# Altium schematic symbol library TarabusLib_KOR.SchLib: 323 symbols (part 1 of 4)
Pins are listed as number, name and electrical type; pins without a type are passive.

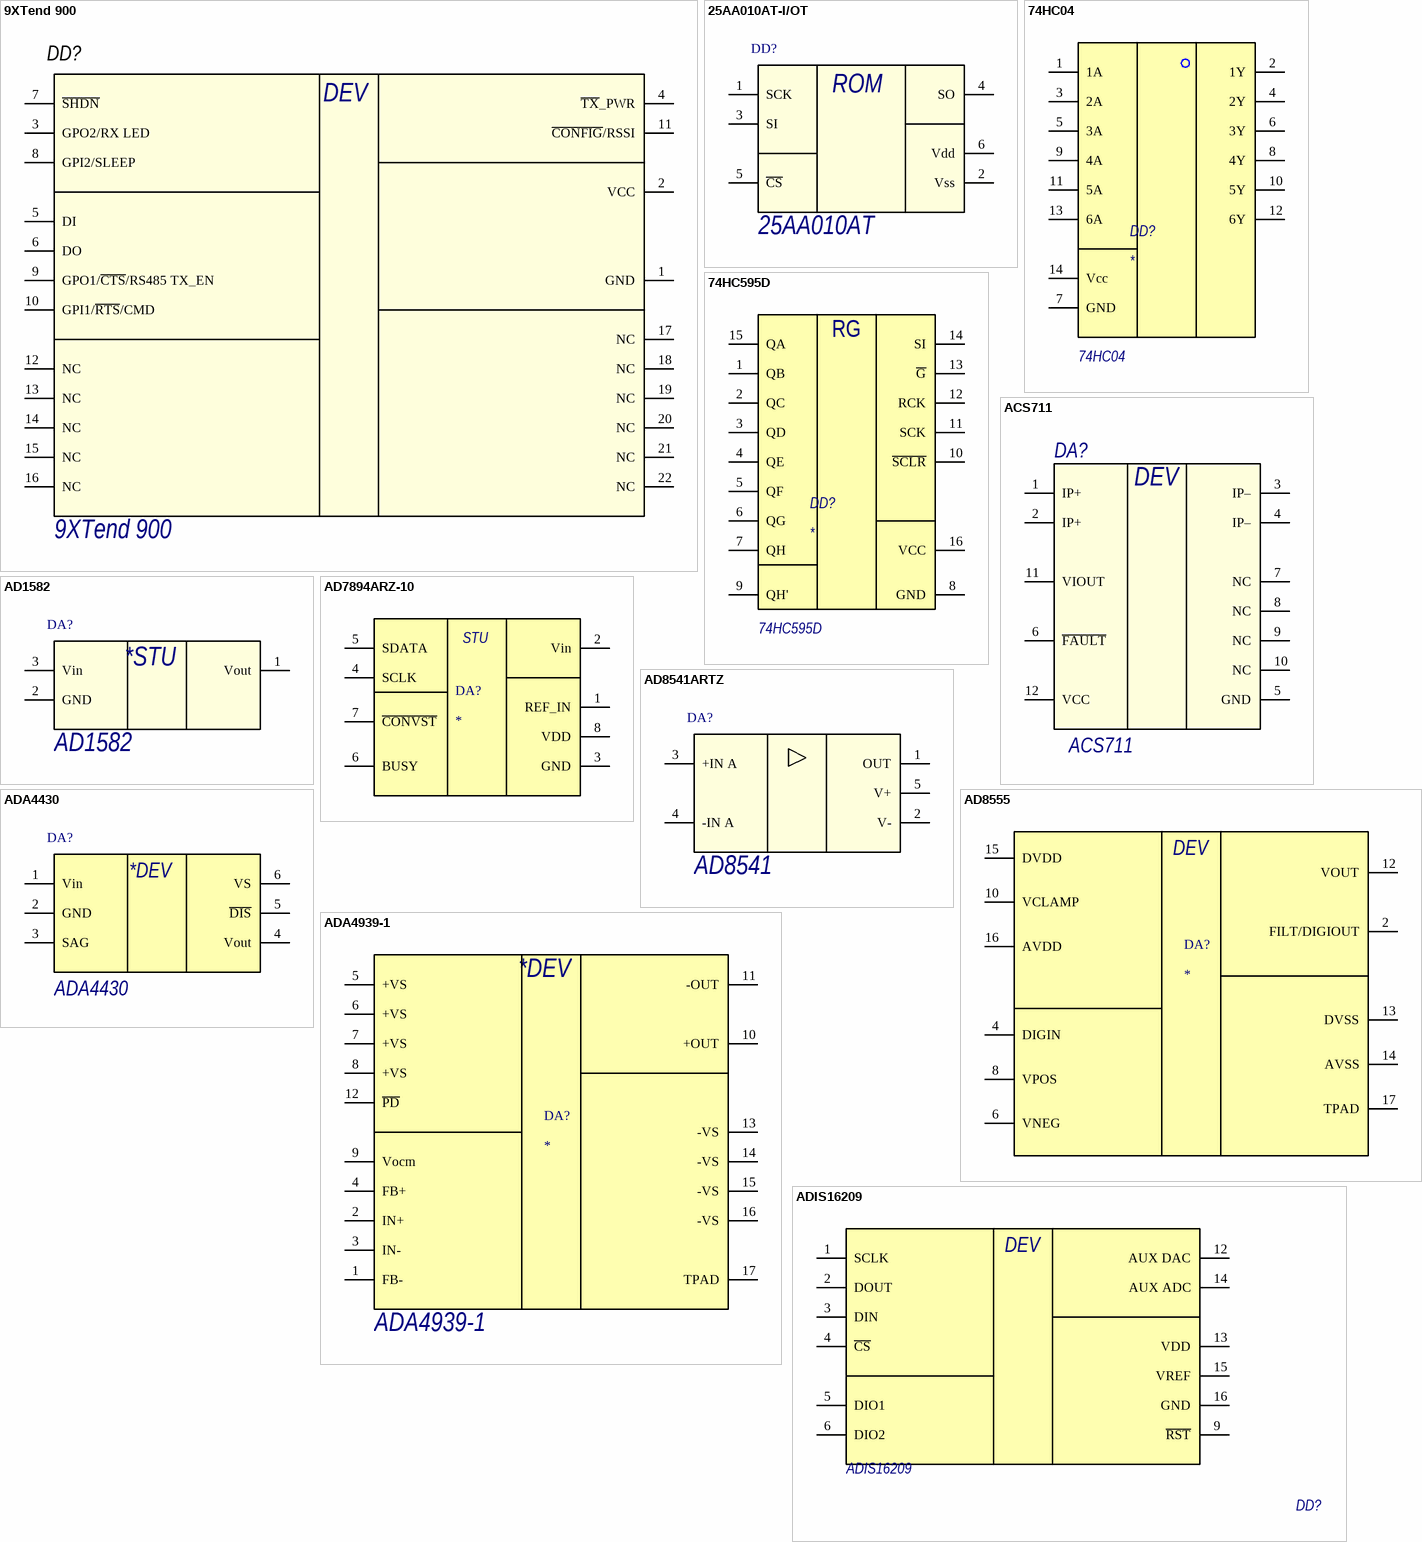
[diagram p0: symbols 9XTend 900 to ADIS16209]

## 9XTend 900
designator DD?
Радиомодуль; Manufacturer: Digi International; Manufacturer Part Number: XBP09-DMUIT-156; Voltage - Supply: 3 V ~ 3.6 V; Frequency: 900MHz; Modulation or Protocol: FHSS; Sensitivity: -100dBm; Data Rate (Max): 156kbps; Current - Receiving: 80mA; Current - Transmitting: 210mA; Data Interface: PCB, Through Hole; Antenna Connector: U.FL; Power - Output: 17dBm (50mW); Output Power: 1 W; Frequency Band: 900 MHz; Interface Type: Serial; Antenna Connector Type: RPSMA; Operating Supply Voltage: 2.8 V to 5.5 V; Supply Current Receiving: 80 mA; Supply Current Transmitting: 950 mA; Supplier: Digi-Key; RoHS: RoHS Compliant; Applications: Wireless Mesh Networks; Memory Size: -; Operating Temperature: -40°C ~ 85°C; Package / Case: Module; Category: RF/IF and RFID; Packaging: Bulk; Supplier Part Number: 602-1131-ND; Supplier 1: Mouser; Stock 1: 309; Pricing 1: 1=265.82 (AUD); Dimensions: 60.5 mm x 36.5 mm x 5.1 mm; Product: Transceiver Modules; Brand: Digi International; Maximum Operating Temperature: + 85 C; Minimum Operating Temperature: - 40 C; Product Category: Wireless Modules 900MHz; Tradename: XTend; RoHS - Mouser: Y; Minimum Order Quantity: 1; Reeling: False; ComponentLink1URL: http://www.mouser.com/ds/2/111/ds_xtendmodule-3221.pdf; ComponentLink1Description: http://www.mouser.com/ds/2/111/ds_xtendmodule-3221.pdf; Supplier Part Number 1: 888-XT09-SI; Name: 9XTend 900
footprint 9XTend 900
pins: 1 GND, 2 VCC, 3 GPO2/RX LED, 4 ~{TX}_PWR, 5 DI, 6 DO, 7 ~{SHDN}, 8 GPI2/SLEEP, 9 GPO1/~{CTS}/RS485 TX_EN, 10 GPI1/~{RTS}/CMD, 11 ~{CONFIG}/RSSI, 12 NC, 13 NC, 14 NC, 15 NC, 16 NC, 17 NC, 18 NC, 19 NC, 20 NC, 21 NC, 22 NC
text: DEV

## 25AA010AT-I/OT
designator DD?, comment 25AA010AT
ПЗУ 1K SPI; Name: 25AA010AT
footprint SOT23-6_A
footprint SOT23-6_H
pins: 1 SCK, 2 Vss, 3 SI, 4 SO, 5 ~{CS}, 6 Vdd
1 alternate drawing of the same symbol
text: ROM

## 74HC04
designator DD?  Name: 74HC04
6-ть инверторов
footprint TSSOP14_A
footprint TSSOP14_H
footprint SO-14
pins: 1 1A, 2 1Y, 3 2A, 4 2Y, 5 3A, 6 3Y, 7 GND, 8 4Y, 9 4A, 10 5Y, 11 5A, 12 6Y, 13 6A, 14 Vcc

## 74HC595D
designator DD?  Name: 74HC595D
8-и битный сдвиговый регистр
footprint SO-16_M (16-Pin Small Outline Integrated Circuit 1.27 mm Pitch, IPC Low Density)
pins: 1 QB, 2 QC, 3 QD, 4 QE, 5 QF, 6 QG, 7 QH, 8 GND, 9 QH', 10 ~{SCLR}, 11 SCK, 12 RCK, 13 ~{G}, 14 SI, 15 QA, 16 VCC
text: RG

## ACS711
designator DA?
Value: Value; Name: ACS711
footprint QFN_EX12 (QFN, 12-Leads, Body 3x3mm, Pitch 0.5mm)
pins: 1 IP+, 2 IP+, 3 IP–, 4 IP–, 5 GND, 6 ~{FAULT}, 7 NC, 8 NC, 9 NC, 10 NC, 11 VIOUT, 12 VCC
text: DEV

## AD1582
designator DA?
ИОН 2.5В; Name: AD1582
footprint SOT23-3_A
footprint SOT23-3_H
pins: 1 Vout, 2 GND, 3 Vin
text: *STU

## AD7894ARZ-10
designator DA?
footprint SO8_A
pins: 1 REF_IN, 2 Vin, 3 GND, 4 SCLK, 5 SDATA, 6 BUSY, 7 ~{CONVST}, 8 VDD
text: STU

## AD8541ARTZ
designator DA?, comment AD8541
ОУ; Name: AD8541
footprint SOT23-5_A
footprint SOT23-5_H
pins: 1 OUT, 2 V-, 3 +IN A, 4 -IN A, 5 V+

## AD8555
designator DA?
footprint VQFN16 - LFCSP
pins: 2 FILT/DIGIOUT, 4 DIGIN, 6 VNEG, 8 VPOS, 10 VCLAMP, 12 VOUT, 13 DVSS, 14 AVSS, 15 DVDD, 16 AVDD, 17 TPAD
text: DEV

## ADA4430
designator DA?
FILT; Name: ADA4430
footprint SOT23-6_A
footprint SOT23-6_H
pins: 1 Vin, 2 GND, 3 SAG, 4 Vout, 5 ~{DIS}, 6 VS
text: *DEV

## ADA4939-1
designator DA?  Name: ADA4939-1
Differential ADC Driver
footprint VQFN16 - LFCSP
pins: 1 FB-, 2 IN+, 3 IN-, 4 FB+, 5 +VS, 6 +VS, 7 +VS, 8 +VS, 9 Vocm, 10 +OUT, 11 -OUT, 12 ~{PD}, 13 -VS, 14 -VS, 15 -VS, 16 -VS, 17 TPAD
text: *DEV

## ADIS16209
designator DD?  (value not drawn)
ADIS16209: ADIS16209
footprint 9.2 X 9.2 LGA
pins: 1 SCLK, 2 DOUT, 3 DIN, 4 ~{CS}, 5 DIO1, 6 DIO2, 9 ~{RST}, 12 AUX DAC, 13 VDD, 14 AUX ADC, 15 VREF, 16 GND
text: DEV

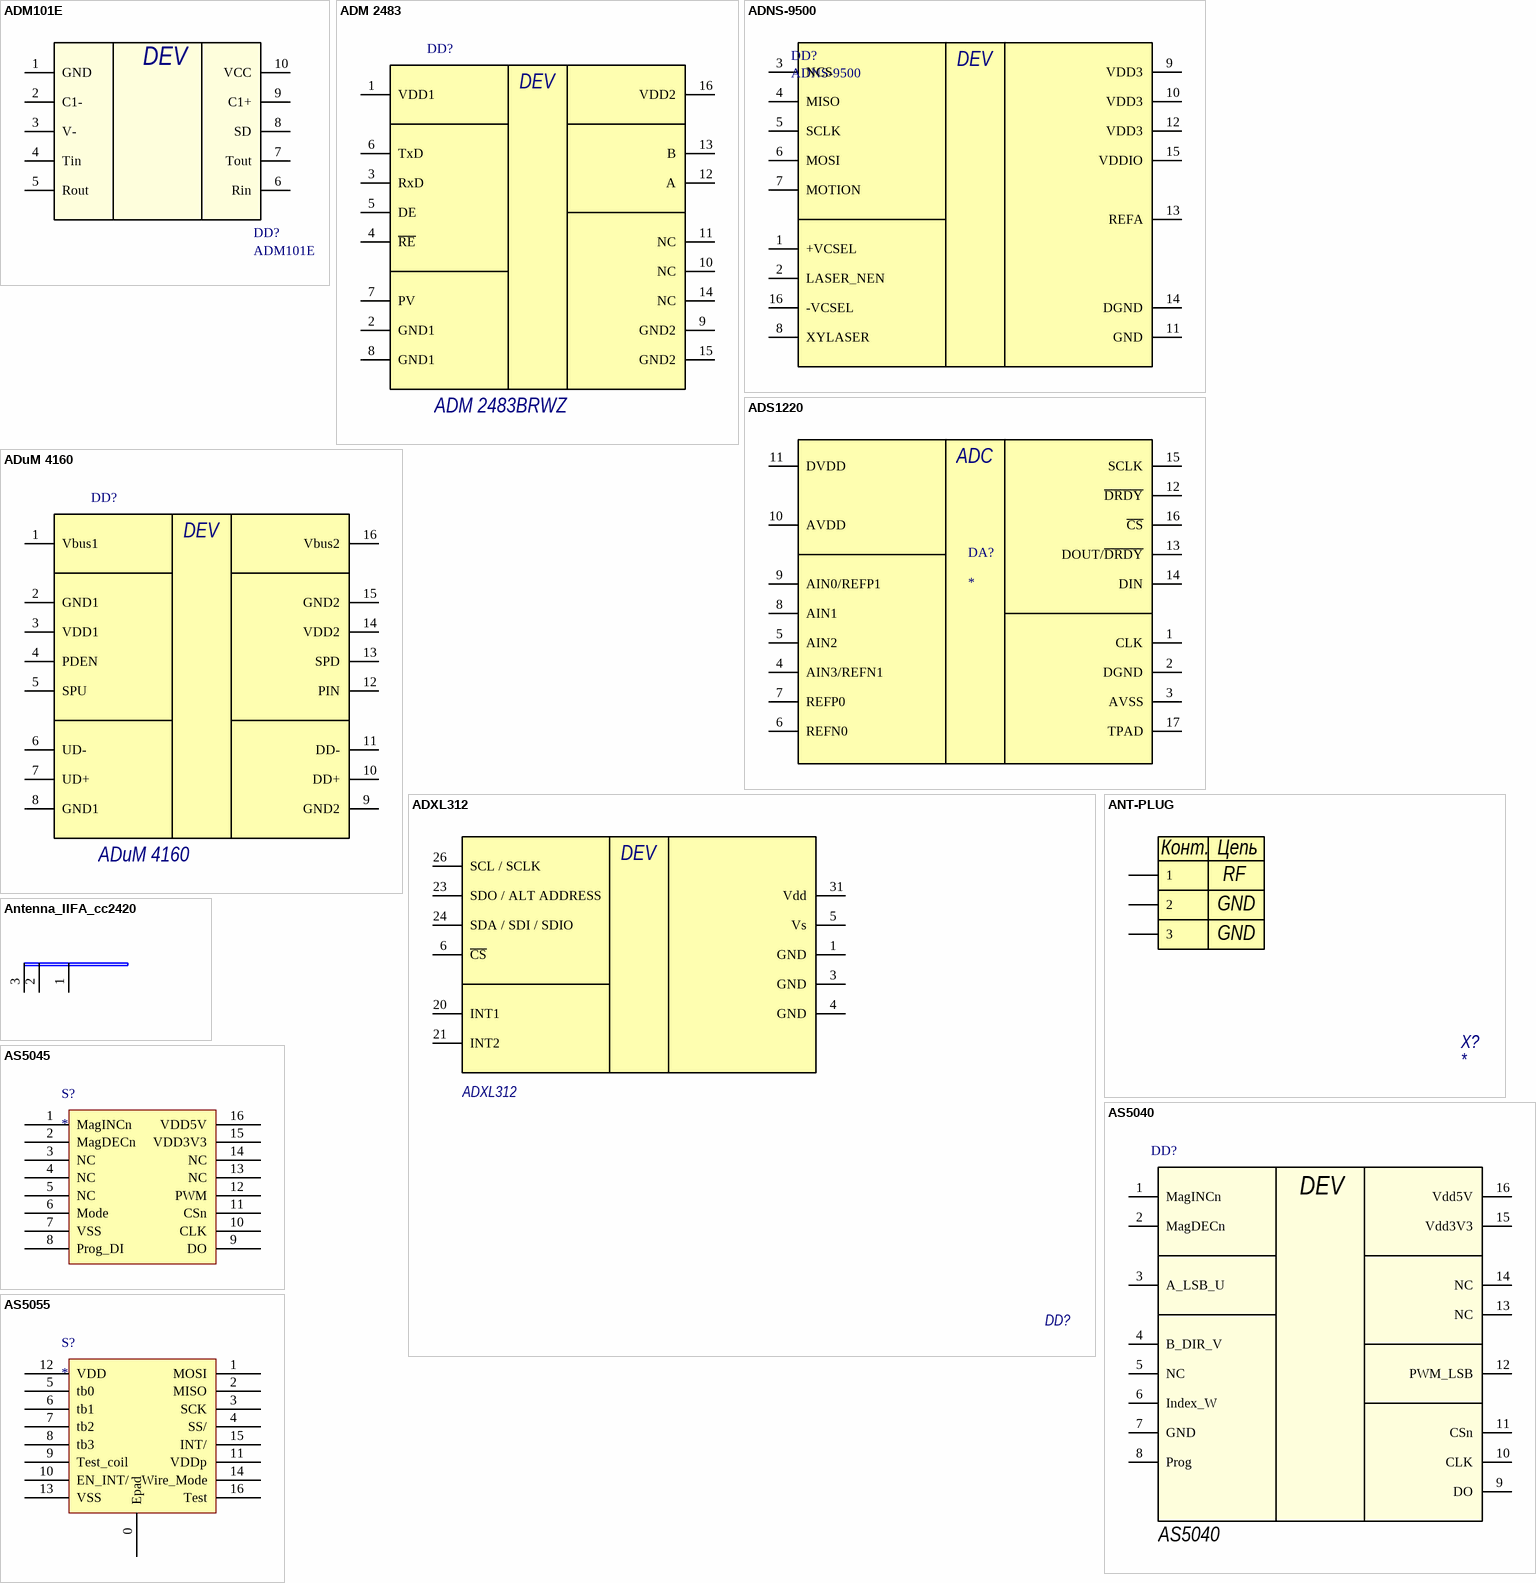
[diagram p1: symbols ADM101E to AS5055]

## ADM101E
designator DD?
RS-232 Transceiver for  Portable Applications
footprint uSOP-10_H
pins: 1 GND, 2 C1-, 3 V-, 4 Tin, 5 Rout, 6 Rin, 7 Tout, 8 SD, 9 C1+, 10 VCC
text: DEV

## ADM 2483
designator DD?, comment ADM 2483BRWZ
Цифровой изолятор; Name: ADM 2483BRWZ
pins: 1 VDD1, 2 GND1, 3 RxD, 4 ~{RE}, 5 DE, 6 TxD, 7 PV, 8 GND1, 9 GND2, 10 NC, 11 NC, 12 A, 13 B, 14 NC, 15 GND2, 16 VDD2
text: DEV

## ADNS-9500
designator DD?
оптический сенсор; Name: ADNS-9500
footprint ADNS-9500 (Оптический датчик)
pins: 1 +VCSEL, 2 LASER_NEN, 3 NCS, 4 MISO, 5 SCLK, 6 MOSI, 7 MOTION, 8 XYLASER, 9 VDD3, 10 VDD3, 11 GND, 12 VDD3, 13 REFA, 14 DGND, 15 VDDIO, 16 -VCSEL
text: DEV

## ADS1220
designator DA?
footprint VQFN16 - LFCSP
footprint VQFN16
pins: 1 CLK, 2 DGND, 3 AVSS, 4 AIN3/REFN1, 5 AIN2, 6 REFN0, 7 REFP0, 8 AIN1, 9 AIN0/REFP1, 10 AVDD, 11 DVDD, 12 ~{DRDY}, 13 DOUT/~{DRDY}, 14 DIN, 15 SCLK, 16 ~{CS}, 17 TPAD
text: ADC

## ADuM 4160
designator DD?
Цифровой изолятор; Name: ADuM 4160
pins: 1 Vbus1, 2 GND1, 3 VDD1, 4 PDEN, 5 SPU, 6 UD-, 7 UD+, 8 GND1, 9 GND2, 10 DD+, 11 DD-, 12 PIN, 13 SPD, 14 VDD2, 15 GND2, 16 Vbus2
text: DEV

## ADXL312
designator DD?  (value not drawn)
ADXL312; ADXL312: ADXL312
footprint ADXL312 (QFN, 32-Leads, Body 5,3x5,3mm (max), Pitch 0,50mm, IPC Medium Density)
pins: 1 GND, 3 GND, 4 GND, 5 Vs, 6 ~{CS}, 20 INT1, 21 INT2, 23 SDO / ALT ADDRESS, 24 SDA / SDI / SDIO, 26 SCL / SCLK, 31 Vdd
text: DEV

## ANT-PLUG
designator X?
footprint CL331-0471-0-01
pins: 1, 2, 3
text: Конт.; Цепь; RF; GND

## Antenna_IIFA_cc2420
designator A?, comment Antenna_IIFA  (value not drawn)
Antenna single ended IIFA; PortComponent: True; Published: 22-Jan-2007; Publisher: Altium Limited; HelpURL: https://wiki.altium.com/display/ADOH/NanoBoard+3000+-+Audio+CODEC
footprint antenna_IIFA_cc2420
pins: 1, 2, 3

## AS5040
designator DD?
Энкодер магнитный; Supplier 1: Digi-Key; Supplier Part Number 1: AS5040-ASSTCT-ND; Name: AS5040
footprint SSOP16_A
footprint SSOP16_H
pins: 1 MagINCn, 2 MagDECn (power), 3 A_LSB_U (power), 4 B_DIR_V, 5 NC, 6 Index_W, 7 GND, 8 Prog, 9 DO, 10 CLK, 11 CSn, 12 PWM_LSB, 13 NC, 14 NC, 15 Vdd3V3, 16 Vdd5V
text: DEV

## AS5045
designator S?
AMS - AS5045-ASSU - ENCODER, MAGNETIC, ROTARY, 12BIT, 16SSOP; No. of Pins: 16; Brief Features: 360; IC Function: 12; Encoder Resolution: 4096; Digital IC Case Style: SSOP; Supply Voltage Max: 3.6; Supply Voltage Min: 3; Rotational Speed: 30000; SVHC: No SVHC (16-Dec-2013); Supply Voltage Range: 3V to 3.6V, 4.5V to 5.5; Supplier 1: Farnell; Operating Temperature Min: -40; Operating Temperature Max: 125; Manufacturer: AMS; RoHS: YES; Supplier: Farnell; Packaging: Each; Manufacturer Part Number: AS5045-ASSU; No. of Bits: 12; MSL: MSL 3 - 168 hours; Operating Temperature Range: -40°C to +125; Termination Type: SMD; Type: Magnetic<!--FANDB--><div class="features-and-benefits-container"></div>; Supplier Part Number 1: 1630801; Supplier Part Number: 1630801
footprint SSOP16_H
pins: 1 MagINCn, 2 MagDECn, 3 NC, 4 NC, 5 NC, 6 Mode, 7 VSS, 8 Prog_DI, 9 DO, 10 CLK, 11 CSn, 12 PWM, 13 NC, 14 NC, 15 VDD3V3, 16 VDD5V

## AS5055
designator S?
IC ENCODER ROTARY 16-QFN; Manufacturer Part Number: AS5055-EQFT; Manufacturer: ams; Voltage - Supply: 3 V ~ 3.6 V; Current - Supply: 8.5mA; Output Type: Digital; Sensing Range: 30mT ~ 80mT; Supplier 1: Digi-Key; RoHS: RoHS Compliant; Packaging: Tape & Reel (TR); Category: Sensors, Transducers; Current - Output (Max): -; Type: Linear, Rotary Encoder - Programmable; Features: -; Package / Case: 16-VQFN Exposed Pad; Operating Temperature: -20°C ~ 85°C; Supplier Device Package: 16-QFN (4x4); Supplier Part Number 1: AS5055-EQFTTR-ND
footprint QFN16_B (QFN, 16-Leads, Body 4,05x4,05mm, Pitch 0,65mm, Thermal Pad 2,60x2,60mm, IPC Medium Density)
pins: 0 Epad, 1 MOSI, 2 MISO, 3 SCK, 4 SS/, 5 tb0, 6 tb1, 7 tb2, 8 tb3, 9 Test_coil, 10 EN_INT/, 11 VDDp, 12 VDD, 13 VSS, 14 Wire_Mode, 15 INT/, 16 Test

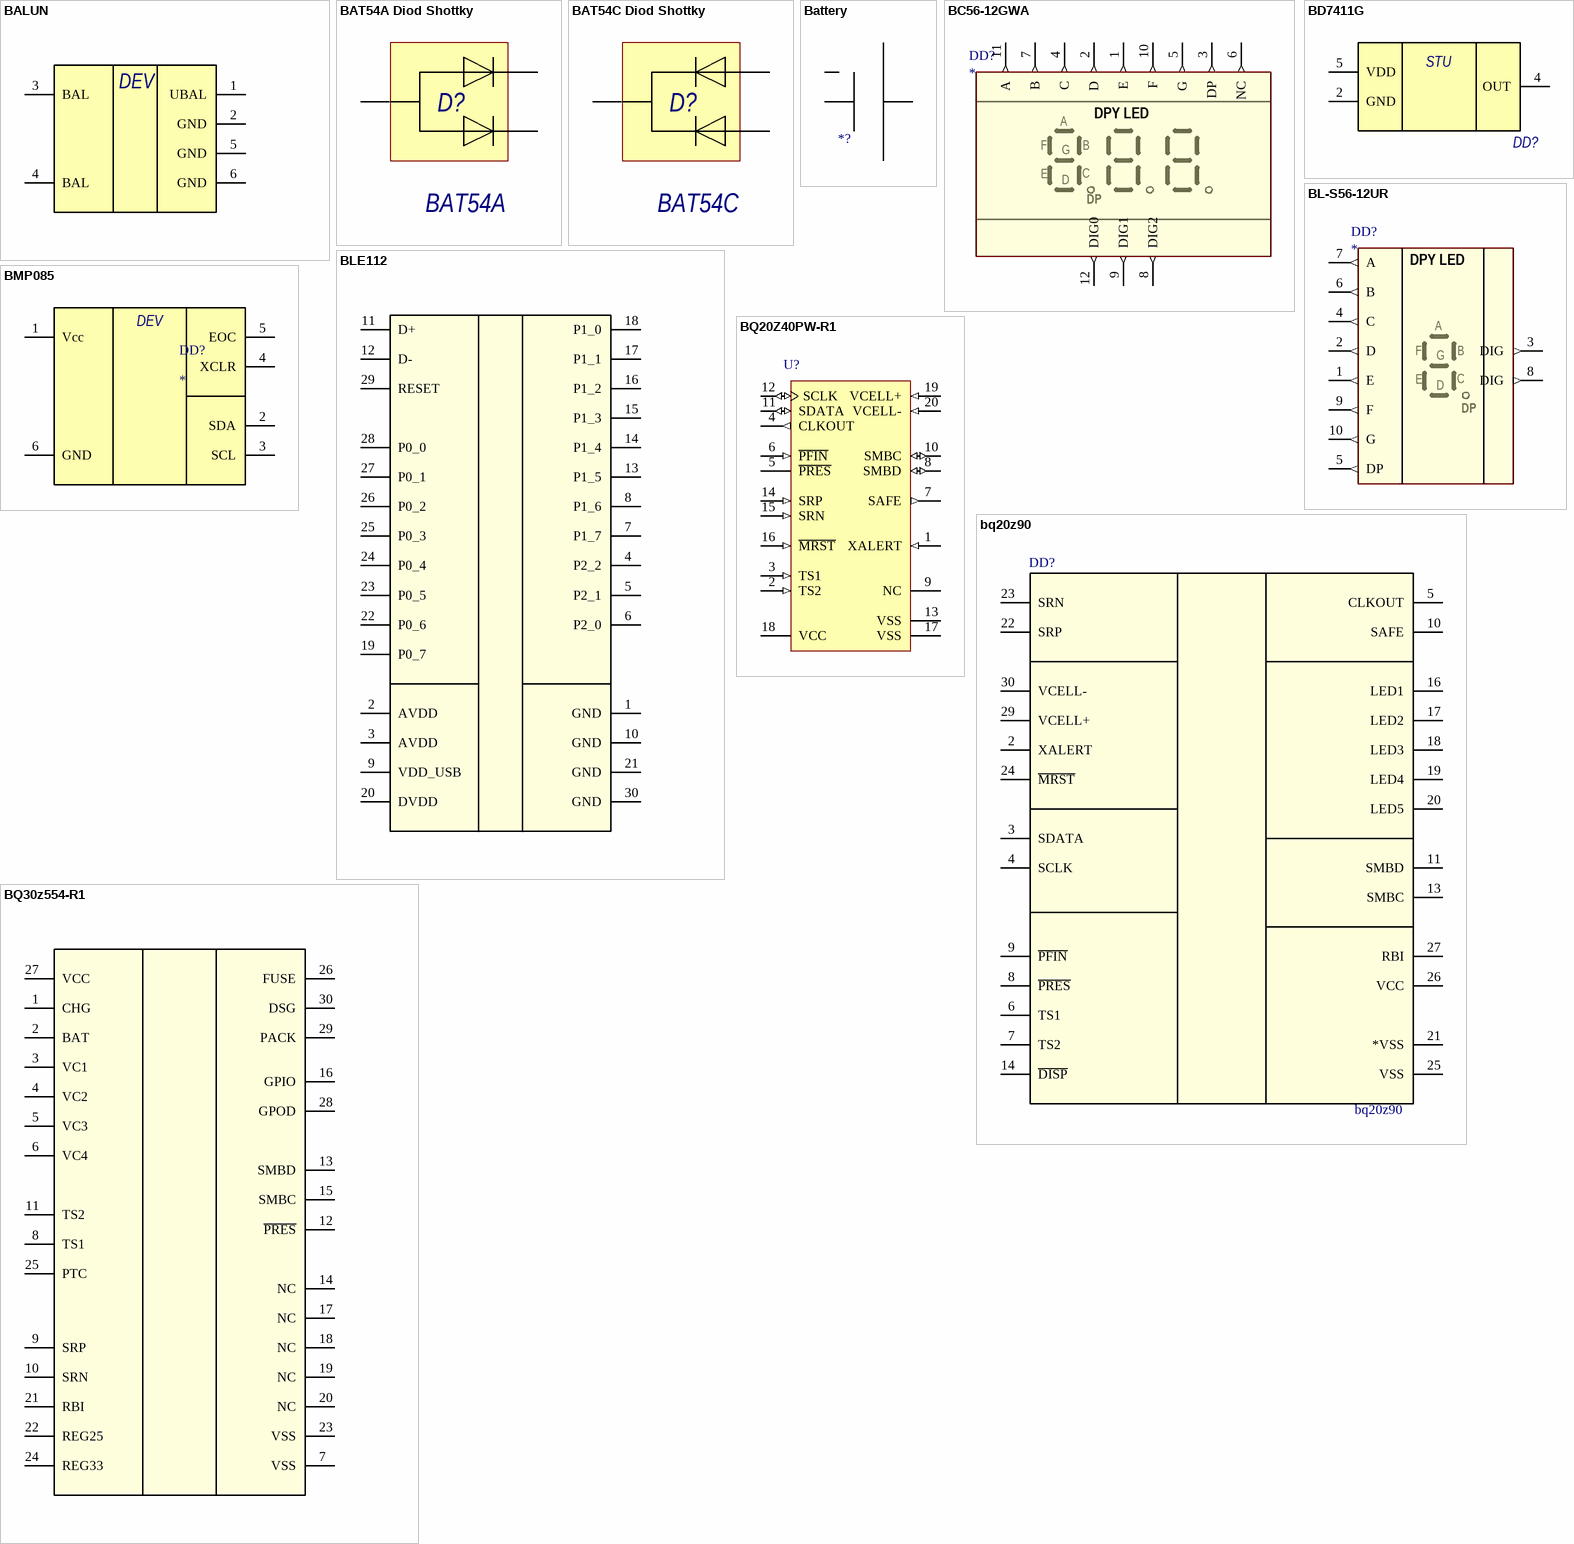
[diagram p2: symbols BALUN to BQ30z554-R1]

## BALUN
designator DD?, comment CC430F5137IRGZT
20 MHz MSP430 SoC with RF Core with 32 KB Flash, 4096 B SRAM and 30 GPIOs, -40 to 85 degC, 48-pin QFN (RGZ), Green (RoHS & no Sb/Br); Manufacturer: Texas Instruments; ADC: Yes; ADC Channels: 6; DMA: 3; Flash(KB): 32; Frequency(MHz): 20; GPIO: 30; Multiplier: 32x32; SRAM(B): 4096; SubFamily: RF SoC Series; Timers - 16-bit: 2; USCI_A (UART/LIN/IrDA/SPI): 1; DatasheetVersion: SLAS554F; PackageVersion: 4204101/F; PackageReference: RGZ48-4100X4100TP; PackageDescription: 48-Pin Plastic Flat Pack, Body 7 x 7 mm, Pitch 0.5 mm; Brown Out Reset: Yes; Comparators: Yes; Eco-Plan: Green (RoHS & no Sb/Br); Real-Time Clock: Yes; SVS: Yes; Temp Sensor: Yes; USCI_B (I2C & SPI): 1; Watchdog: Yes; Mounting Technology: Surface Mount; Code_JEDEC: MO-220; PartNumber: CC430F5137IRGZT; ComponentLink1Description: Manufacturer URL; ComponentLink1URL: http://www.ti.com/; ComponentLink2Description: Datasheet; ComponentLink2URL: http://www.ti.com/general/docs/lit/getliterature.tsp?genericPartNumber=CC430F5137&fileType=pdf; ComponentLink3Description: Package Specification; ComponentLink3URL: http://www.ti.com/lit/ds/symlink/sn75dp139.pdf
footprint Balun
pins: 1 UBAL, 2 GND, 3 BAL, 4 BAL, 5 GND, 6 GND
text: DEV

## BAT54A Diod Shottky
designator D?, comment BAT54A
Package: sot23; ComponentLink1URL: http://www.vishay.com/docs/85508/bat54v.pdf; ComponentLink1Description: Datasheet
footprint SOT23-3_A
pins: 1, 2, 3

## BAT54C Diod Shottky
designator D?, comment BAT54С
Package: sot23; ComponentLink1URL: http://www.vishay.com/docs/85508/bat54v.pdf; ComponentLink1Description: Datasheet
footprint SOT23-3_A
pins: 1, 2, 3

## Battery
designator *?  (value not drawn)
Name: *
footprint Battery
pins: 1, 2

## BC56-12GWA
designator DD?
7-ми сегментный 3-х разрядный цифровой индикатор; Успех: Успез блеат
pins: 1 E (out), 2 D (out), 3 DP (out), 4 C (out), 5 G (out), 6 NС (out), 7 B (out), 8 DIG2 (out), 9 DIG1 (out), 10 F (out), 11 A (out), 12 DIG0 (out)
text: DPY LED

## BD7411G
designator DD?  (value not drawn)
Name: *
footprint SSOP5
pins: 2 GND, 4 OUT, 5 VDD
text: STU

## BL-S56-12UR
designator DD?
7-ми сегментный 1 разрядный цифровой индикатор; Назначение: Длительность
pins: 1 E (out), 2 D (out), 3 DIG (out), 4 C (out), 5 DP (out), 6 B (out), 7 A (out), 8 DIG (out), 9 F (out), 10 G (out)
text: DPY LED

## BLE112
designator DD?
Audio Codec Control; PortComponent: True; Published: 22-Jan-2007; Publisher: Altium Limited; HelpURL: https://wiki.altium.com/display/ADOH/NanoBoard+3000+-+Audio+CODEC
footprint BLE112 (Module,28-Leads, Body 18,10x8,66mm, Pitch 1,25mm)
pins: 1 GND (power) "Ground (0V)", 2 AVDD (power) "USB power connection", 3 AVDD (power) "Power supply (+3.3V DC) for de-coupling purposes", 4 P2_2 (power) "Antenna connection 1", 5 P2_1 (power) "Antenna connection 1", 6 P2_0 (power) "Reset for microcontroller, active low", 7 P1_7 (power) "Ground (0V)", 8 P1_6 (power) "Ground (0V)", 9 VDD_USB (power) "Power supply (+3.3V DC) for de-coupling purposes", 10 GND (power) "Ground (0V)", 11 D+ (power) "USB data +", 12 D- (power) "USB data -", 13 P1_5 (power) "Power supply (+3.3V DC) for de-coupling purposes", 14 P1_4 (power) "Power supply (+3.3V DC) for de-coupling purposes", 15 P1_3 (power) "Power supply (+3.3V DC) for de-coupling purposes", 16 P1_2 (power) "Reference current", 17 P1_1 (power) "Positive Digital Supply output for de-coupling purposes", 18 P1_0 (power) "Reserved for programming the flash", 19 P0_7 (power) "Antenna connection 2", 20 DVDD (power) "Power supply (+3.3V DC) for de-coupling purposes", 21 GND (power) "Ground (0V)", 22 P0_6 (power) "Power Supply (+1.8V) to Power Amplifier", 23 P0_5 (power) "General purpose data Port 0, bit 0", 24 P0_4 (power) "General purpose data Port 0, bit 1", 25 P0_3 (power) "General purpose data Port 0, bit 2", 26 P0_2 (power) "General purpose data Port 0, bit 3", 27 P0_1 (power) "General purpose data Port 0, bit 4", 28 P0_0 (power) "General purpose data Port 0, bit 5", 29 RESET (power) "Positive Digital Supply output for de-coupling purposes", 30 GND (power)

## BMP085
designator DD?
footprint BMP085
pins: 1 Vcc, 2 SDA, 3 SCL, 4 XCLR, 5 EOC, 6 GND
text: DEV

## BQ20Z40PW-R1
designator U?
SBS 1.1 Compliant Gas Gauge with Impedance Track Technology, -40 to 85 degC, 20-pin TSSOP (PW), Green (RoHS & no Sb/Br); PartNumber: BQ20Z40PW-R1; Manufacturer: Texas Instruments; Lead Acid: N; Li-Ion: Y; SubFamily: Battery Fuel Gauge; DatasheetVersion: SLUS993A; PackageVersion: revG, Feb-2011; PackageReference: PW20; PackageDescription: 20-Pin Plastic Thin Small Outline Package 6.5 x 4.4 mm Body ,0.65 mm Pitch; Supplier 1: Digi-Key; Supplier Part Number 1: 296-25634-5-ND; Supplier 2: Newark; Supplier Part Number 2: 64R8793; Supplier 3: Mouser; Supplier Part Number 3: 595-BQ20Z40PW-R1; Eco-Plan: Green (RoHS & no Sb/Br); Li-Polymer: N; NiCd: N; NiMH: N; Over Voltage Protection: N; Mounting Technology: Surface Mount; Code_JEDEC: MO-153; ComponentLink1Description: Datasheet; ComponentLink1URL: http://www.ti.com/general/docs/lit/getliterature.tsp?genericPartNumber=BQ20Z40-R1&fileType=pdf
footprint PW20_N (TSOP, 20-Leads, Body 6.5x4.4mm, Pitch 0.65mm, IPC Medium Density)
footprint PW20_L (TSOP, 20-Leads, Body 6.5x4.4mm, Pitch 0.65mm, IPC High Density)
footprint PW20_M (TSOP, 20-Leads, Body 6.5x4.4mm, Pitch 0.65mm, IPC Low Density)
pins: 1 XALERT (in) "Input from bq29330 XALERT output", 2 TS2 (in) "2nd Thermistor voltage input connection to monitor temperature", 3 TS1 (in) "1st Thermistor voltage input connection to monitor temperature", 4 CLKOUT (out) "32.768-kHz output for the bq29330. This pin should be directly connected to the AFE.", 5 ~{PRES} "Active low input to sense system insertion. Typically requires additional ESD protection.", 6 ~{PFIN} (in) "Active low input to detect secondary protector output status, and to allow the bq20z40-R1 to report the status of the 2nd level protection output", 7 SAFE (out) "Active high output to enforce additional level of safety protection; e.g., fuse blow", 8 SMBD (io) "SMBus data open-drain bidirectional pin used to transfer address and data to and from the bq20z40-R1", 9 NC "Not used--leave floating", 10 SMBC (io) "SMBus clock open-drain bidirectional pin used to clock the data transfer to and from the bq20z40-R1", 11 SDATA (io) "Data transfer to and from bq29330", 12 SCLK (io) "Communication clock to the bq29330", 13 VSS (power) "Connected I/O pin to VSS", 14 SRP (in) "Connections for a small-value sense resistor to monitor the battery charge- and discharge-current flow", 15 SRN (in) "Connections for a small-value sense resistor to monitor the battery charge- and discharge-current flow", 16 ~{MRST} (in) "Master reset input that forces the device into reset when held low. Must be held high for normal operation", 17 VSS (power) "Negative Supply Voltage", 18 VCC (power) "Positive Supply Voltage", 19 VCELL+ (in) "Input from bq29330 used to read a scaled value of individual cell voltages", 20 VCELL- (in) "Input from bq29330 used to read a scaled value of individual cell voltages"

## bq20z90
designator DD?
Name: bq20z90
footprint DBT30
pins: 1 NC hidden, 2 XALERT, 3 SDATA, 4 SCLK, 5 CLKOUT, 6 TS1, 7 TS2, 8 ~{PRES}, 9 ~{PFIN}, 10 SAFE, 11 SMBD, 12 NC hidden, 13 SMBC, 14 ~{DISP}, 15 NC hidden, 16 LED1, 17 LED2, 18 LED3, 19 LED4, 20 LED5, 21 *VSS, 22 SRP, 23 SRN, 24 ~{MRST}, 25 VSS, 26 VCC, 27 RBI, 28 NC hidden, 29 VCELL+, 30 VCELL-

## BQ30z554-R1
designator DD?
2-Series, 3-Series, and 4-Series Li-Ion Battery Pack Manager; PortComponent: True; Published: 2013; Publisher: Altium Limited; HelpURL: http://www.ti.com/lit/ds/symlink/bq30z554-r1.pdf
pins: 1 CHG (power), 2 BAT (power), 3 VC1 (power), 4 VC2 (power), 5 VC3 (power), 6 VC4 (power), 7 VSS (power), 8 TS1 (power), 9 SRP (power), 10 SRN (power), 11 TS2 (power), 12 ~{PRES} (power), 13 SMBD (power), 14 NC (power), 15 SMBC (power), 16 GPIO (power), 17 NC (power), 18 NC (power), 19 NC (power), 20 NC (power), 21 RBI (power), 22 REG25 (power), 23 VSS (power), 24 REG33 (power), 25 PTC (power), 26 FUSE (power), 27 VCC (power), 28 GPOD (power), 29 PACK (power), 30 DSG (power)

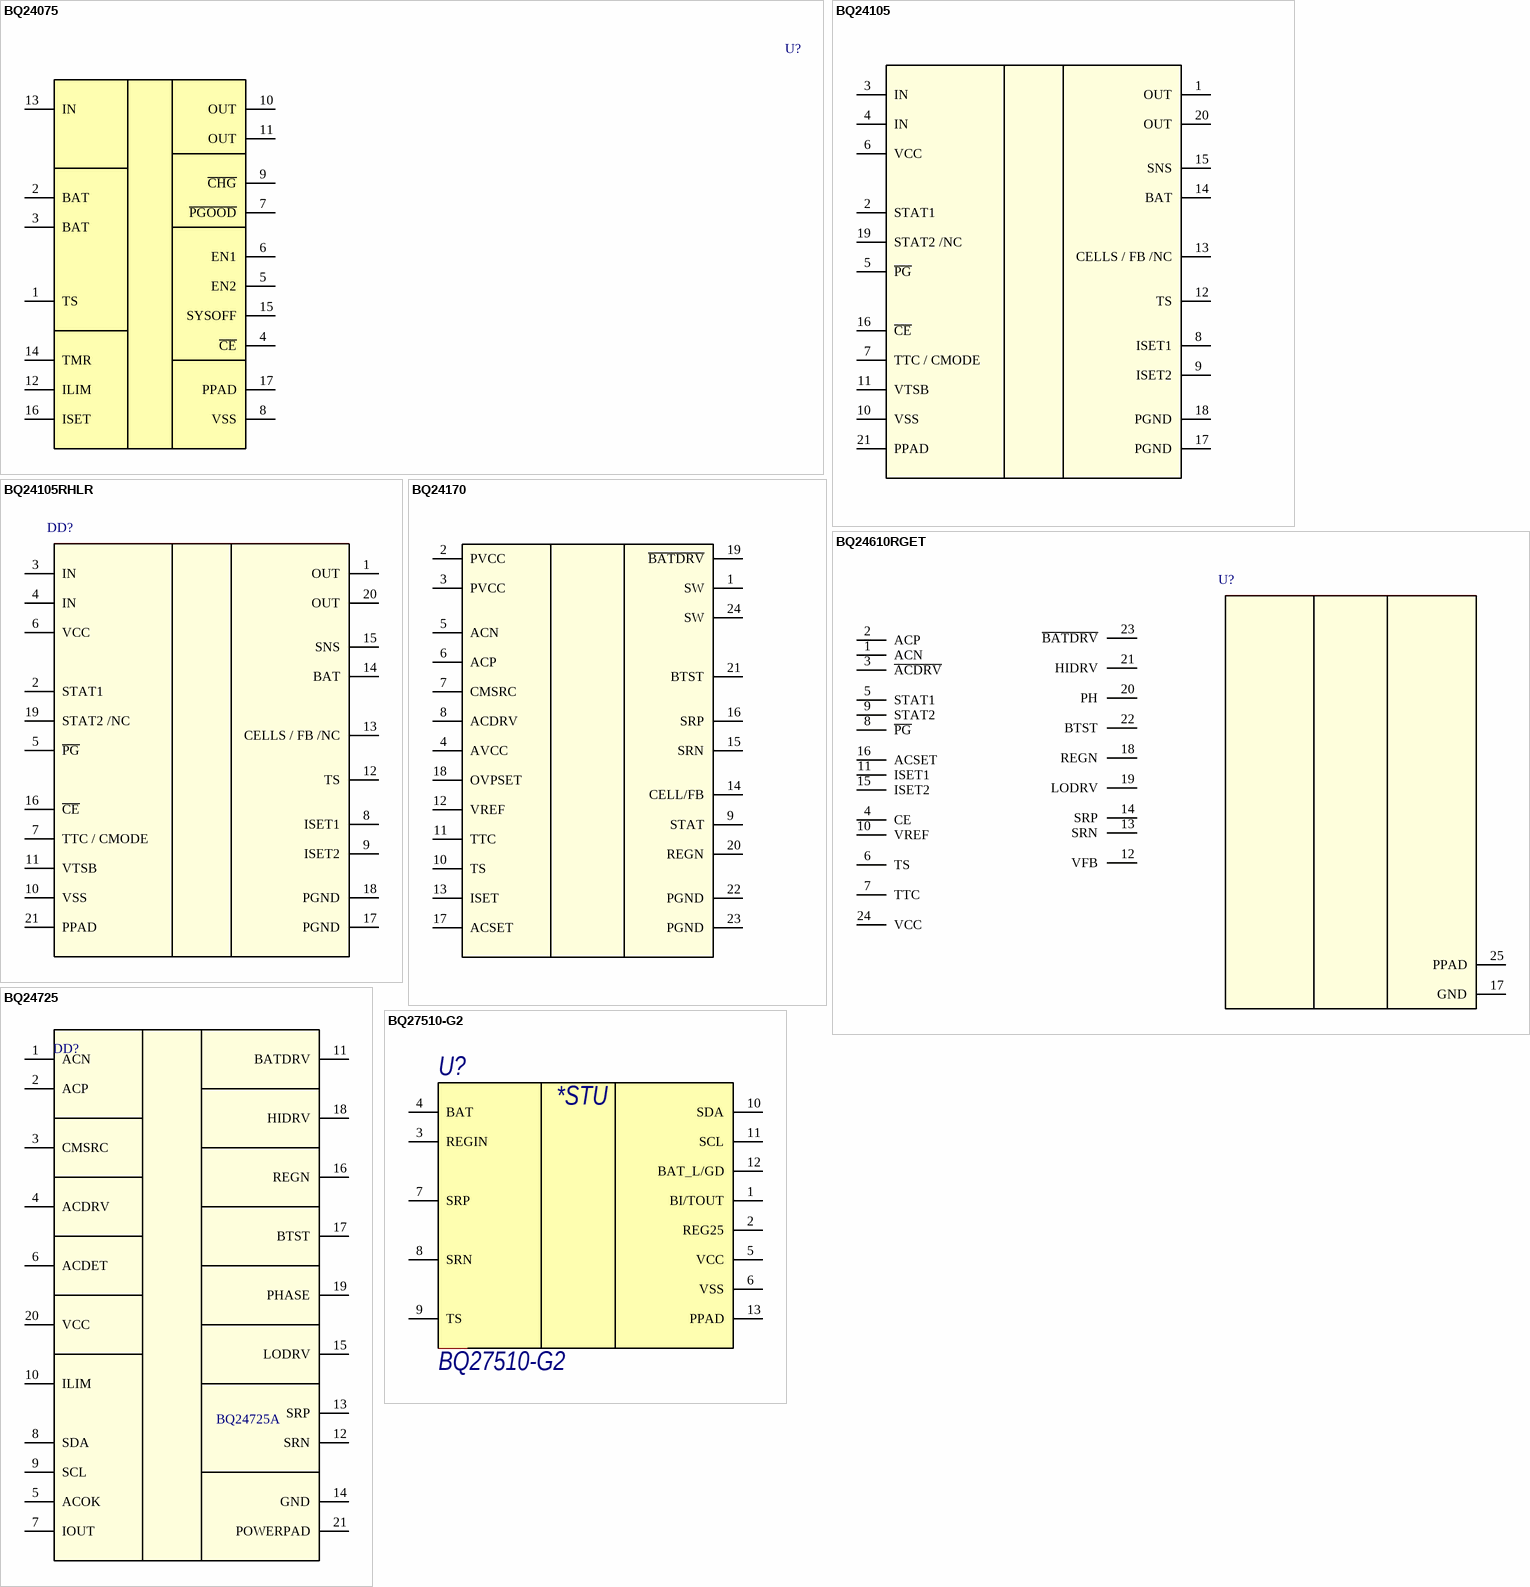
[diagram p3: symbols BQ24075 to BQ27510-G2]

## BQ24075
designator U?
1.5 A USB-Friendly Li-Ion Battery Charger and Power-Path Management IC with 4.2 VBAT, 4.3 V, -40 to 85 degC, 16-pin QFN (RGT), Green (RoHS & no Sb/Br); PartNumber: BQ24075TRGTT; Manufacturer: Texas Instruments; Lead Acid: N; SubFamily: Battery Charge Management; Vin(Min)(V): 4.3; DatasheetVersion: SLUS937A; PackageVersion: revH, Oct-2011; PackageReference: RGT16-1700X1700TP; PackageDescription: 16-Pin Plastic Quad Flat No-Lead, 3 x 3 mm Body, 0.5 mm Pitch, 1.7 x 1.7 mm Exposed Pad; Supplier 1: Digi-Key; Supplier Part Number 1: 296-32025-2-ND; Supplier 2: Digi-Key; Supplier Part Number 2: 296-32025-1-ND; Supplier 3: Digi-Key; Supplier Part Number 3: 296-32025-6-ND; Supplier 4: Newark; Supplier Part Number 4: 63R9856; Supplier 5: Mouser; Supplier Part Number 5: 595-BQ24075TRGTT; Eco-Plan: Green (RoHS & no Sb/Br); Li-Ion: N; Li-Polymer: N; NiCd: N; NiMH: N; Over Voltage Protection: N; Mounting Technology: Surface Mount; Code_JEDEC: MO-220; ComponentLink1Description: Datasheet; ComponentLink1URL: http://www.ti.com/general/docs/lit/getliterature.tsp?genericPartNumber=BQ24075T&fileType=pdf
footprint RGT16-1700X1700TP (QFN, 16-Leads, Body 3x3mm, Pitch 0.5mm, Thermal Pad 1.7x1.7mm, TI Recommended)
pins: 1 TS (power) "External NTC Thermistor Input. Connect the TS input to the center tap of a resistor divider from VIN to GND with the NTC in parallel with the bottom resistor to monitor the NTC in the battery pack. For applications that do (See Datasheet)", 2 BAT (power) "Charger Power Stage Output and Battery Voltage Sense Input. Connect BAT to the positive terminal of the battery. Bypass BAT to VSS with a 4.7uF to 47uF ceramic capacitor.", 3 BAT (power) "Charger Power Stage Output and Battery Voltage Sense Input. Connect BAT to the positive terminal of the battery. Bypass BAT to VSS with a 4.7uF to 47uF ceramic capacitor.", 4 ~{CE} (power) "Charge Enable Active-Low Input. Connect C\E\ to a high logic level to place the battery charger in standby mode. In standby mode, OUT is active and battery supplement mode is available. Connect /CE to a low logic level to (See Datasheet)", 5 EN2 (power) "Input Current Limit Configuration Inputs. Use EN1 and En2 to control the maximum input current and enable USB compliance. See Table 1 for the description of the operation states EN1 and EN2 are internally pulled down with (See Datasheet)", 6 EN1 (power) "Input Current Limit Configuration Inputs. Use EN1 and En2 to control the maximum input current and enable USB compliance. See Table 1 for the description of the operation states EN1 and EN2 are internally pulled down with (See Datasheet)", 7 ~{PGOOD} (power) "Open-Drain Power Good Status Indication Output. P\G\O\O\D\ pulls to VSS when a valid input source is detected. P\G\O\O\D\ is high-impedance when the input power is not within specified limits. Connect P\G\O\O\D\ to the (See Datasheet)", 8 VSS (power) "Ground. Connect to the thermal pad and to the ground rail of the circuit.", 9 ~{CHG} (power) "Open-Drain Charging Status Indication Output. C\H\G\ pulls to VSS when the battery is charging. C\H\G\ is high-impedance when charging is complete or when the charger is disabled. C\H\G\ flashes to indicate a timer fault. (See Datasheet)", 10 OUT (power) "System Supply Output. OUT provides a regulated output when the input is below the OVP threshold and above the regulation voltage. When the input is out of the operation range, OUT is connected to VBAT except when SYSOFF is (See Datasheet)", 11 OUT (power) "System Supply Output. OUT provides a regulated output when the input is below the OVP threshold and above the regulation voltage. When the input is out of the operation range, OUT is connected to VBAT except when SYSOFF is (See Datasheet)", 12 ILIM (power) "Adjustable Current Limit Programming Input. Connect a 1.07 k ohm to 7.5 k ohm resistor from ILIM to VSS to program the maximum input current (EN2=1, EN1=0). The input current includes the system load and the battery charge (See Datasheet)", 13 IN (power) "Input Power Connection. Connect IN to the external DC supply (AC adapter or USB port). The input operating range is 4.35V to 6.6V. The input accepts voltages up to 26V without damage, but operation is suspended. Bypass IN to (See Datasheet)", 14 TMR (power) "Timer Programming Input. TMR controls the pre-charge and fast-charge safety timers.Connect TMR to VSS to disable all safety timers. Connect a 18k ohm to 72k ohm resistor between TMR and VSS to program the timers to a desired (See Datasheet)", 15 SYSOFF (power) "System Enable Input. Connect SYSOFF high to turn off the FET connecting the battery to the system output. When an adapter is connected, charge is also disabled. Connect SYSOFF low for normal operation. SYSOFF is internally (See Datasheet)", 16 ISET (power) "Fast Charge Current Programming Input. Connect a 590 ohm to 3 k ohm resistor from ISET to VSS to program the fast charge current level. Charging is disabled if ISET is left unconnected. While charging, the voltage ISET (See Datasheet)", 17 PPAD (power) "There is an internal electrical connection between the exposed thermal pad and the VSS pin of the device. The thermal pad must be connected to the same potential as the VSS pin on the printed circuit board. Do not use the (See Datasheet)"

## BQ24105
designator DD?
SYNCHRONOUS SWITCHMODE, LI-ION AND LI-POLYMER CHARGE-MANAGEMENT  IC WITH INTEGRATED POWER FETs; PortComponent: True; Published: 2010; Publisher: Altium Limited; HelpURL: http://www.ti.com/lit/ds/symlink/bq24105.pdf; Name: BQ24105
footprint PQFN20 (QFN, 20-Leads, Body 4.5x3.5mm, Pitch 0.5mm, Thermal Pad 3.05x2.05mm, TI Recommended)
pins: 1 OUT (power) "Ground (0V)", 2 STAT1 (power) "USB power connection", 3 IN (power) "Power supply (+3.3V DC) for de-coupling purposes", 4 IN (power) "Antenna connection 1", 5 ~{PG} (power) "Antenna connection 1", 6 VCC (power) "Reset for microcontroller, active low", 7 TTC / CMODE (power) "Ground (0V)", 8 ISET1 (power) "Ground (0V)", 9 ISET2 (power) "Power supply (+3.3V DC) for de-coupling purposes", 10 VSS (power) "Ground (0V)", 11 VTSB (power) "USB data +", 12 TS (power) "USB data -", 13 CELLS / FB /NC (power) "Power supply (+3.3V DC) for de-coupling purposes", 14 BAT (power) "Power supply (+3.3V DC) for de-coupling purposes", 15 SNS (power) "Power supply (+3.3V DC) for de-coupling purposes", 16 ~{CE} (power) "Reference current", 17 PGND (power) "Positive Digital Supply output for de-coupling purposes", 18 PGND (power) "Reserved for programming the flash", 19 STAT2 /NC (power) "Antenna connection 2", 20 OUT (power) "Power supply (+3.3V DC) for de-coupling purposes", 21 PPAD (power) "Power supply (+3.3V DC) for de-coupling purposes"

## BQ24105RHLR
designator DD?
Standalone Synchronous Switch-Mode Li-Ion Charger with 2 A FET in QFN-20, 1 to 3 Cells, 4.3 V, -40 to 85 degC, 20-pin QFN (RHL), Green (RoHS & no Sb/Br); PartNumber: BQ24105RHLR; Manufacturer: Texas Instruments; Lead Acid: N; Li-Ion: Y; SubFamily: Battery Charge Management; Vin(Min)(V): 4.3; DatasheetVersion: SLUS606O; PackageVersion: revJ, Dec-2011; PackageReference: RHL20-3050X2050TP; PackageDescription: 20-Leads Plastic Quad Flatpack No-Lead, 4.5 x 3.5 x 0.9 mm Body, 0.5 mm Pitch, Exposed Pad; Supplier 1: Digi-Key; Supplier Part Number 1: 296-17159-2-ND; Supplier 2: Digi-Key; Supplier Part Number 2: 296-17159-1-ND; Supplier 3: Digi-Key; Supplier Part Number 3: 296-17159-6-ND; Supplier 4: Farnell; Supplier Part Number 4: 9593969; Supplier 5: Farnell; Supplier Part Number 5: 9593969MPKG; Supplier 6: Farnell; Supplier Part Number 6: 9593969RL; Supplier 7: Newark; Supplier Part Number 7: 96K7081; Supplier 8: Newark; Supplier Part Number 8: 21J8737; Supplier 9: Mouser; Supplier Part Number 9: 595-BQ24105RHLR; Eco-Plan: Green (RoHS & no Sb/Br); Li-Polymer: Y; NiCd: N; NiMH: N; Over Voltage Protection: N; Mounting Technology: Surface Mount; ComponentLink1Description: Datasheet; ComponentLink1URL: http://www.ti.com/general/docs/lit/getliterature.tsp?genericPartNumber=BQ24105&fileType=pdf
footprint PQFN20 (QFN, 20-Leads, Body 4.5x3.5mm, Pitch 0.5mm, Thermal Pad 3.05x2.05mm, TI Recommended)
pins: 1 OUT (power) "Ground (0V)", 2 STAT1 (power) "USB power connection", 3 IN (power) "Power supply (+3.3V DC) for de-coupling purposes", 4 IN (power) "Antenna connection 1", 5 ~{PG} (power) "Antenna connection 1", 6 VCC (power) "Reset for microcontroller, active low", 7 TTC / CMODE (power) "Ground (0V)", 8 ISET1 (power) "Ground (0V)", 9 ISET2 (power) "Power supply (+3.3V DC) for de-coupling purposes", 10 VSS (power) "Ground (0V)", 11 VTSB (power) "USB data +", 12 TS (power) "USB data -", 13 CELLS / FB /NC (power) "Power supply (+3.3V DC) for de-coupling purposes", 14 BAT (power) "Power supply (+3.3V DC) for de-coupling purposes", 15 SNS (power) "Power supply (+3.3V DC) for de-coupling purposes", 16 ~{CE} (power) "Reference current", 17 PGND (power) "Positive Digital Supply output for de-coupling purposes", 18 PGND (power) "Reserved for programming the flash", 19 STAT2 /NC (power) "Antenna connection 2", 20 OUT (power) "Power supply (+3.3V DC) for de-coupling purposes", 21 PPAD (power) "Power supply (+3.3V DC) for de-coupling purposes"

## BQ24170
designator DD?
1.6-MHz Synchronous Switch-Mode Li-Ion and Li-Polymer Stand-Alone Battery Charger; PortComponent: True; Published: 22-Jan-2007; Publisher: Altium Limited; HelpURL: https://wiki.altium.com/display/ADOH/NanoBoard+3000+-+Audio+CODEC
footprint PQFN24 (3.5mm ? 5.5mm QFN-24 Pin)
pins: 1 SW (power) "Ground (0V)", 2 PVCC (power) "USB power connection", 3 PVCC (power) "Power supply (+3.3V DC) for de-coupling purposes", 4 AVCC (power) "Antenna connection 1", 5 ACN (power) "Antenna connection 1", 6 ACP (power) "Reset for microcontroller, active low", 7 CMSRC (power) "Ground (0V)", 8 ACDRV (power) "Ground (0V)", 9 STAT (power) "Power supply (+3.3V DC) for de-coupling purposes", 10 TS (power) "Ground (0V)", 11 TTC (power) "USB data +", 12 VREF (power) "USB data -", 13 ISET (power) "Power supply (+3.3V DC) for de-coupling purposes", 14 CELL/FB (power) "Power supply (+3.3V DC) for de-coupling purposes", 15 SRN (power) "Power supply (+3.3V DC) for de-coupling purposes", 16 SRP (power) "Reference current", 17 ACSET (power) "Positive Digital Supply output for de-coupling purposes", 18 OVPSET (power) "Reserved for programming the flash", 19 ~{BATDRV} (power) "Antenna connection 2", 20 REGN (power) "Power supply (+3.3V DC) for de-coupling purposes", 21 BTST (power) "Ground (0V)", 22 PGND (power) "Power Supply (+1.8V) to Power Amplifier", 23 PGND (power) "General purpose data Port 0, bit 0", 24 SW (power) "General purpose data Port 0, bit 1"

## BQ24610RGET
designator U?
Stand-Alone Synchronous Switch-Mode Li-Ion or Li-Polymer Battery Charger with 5 to 28 V VCC Input, 5 V, -40 to 85 degC, 24-pin VQFN (RGE), Green (RoHS & no Sb/Br); PartNumber: BQ24610RGET; Manufacturer: Texas Instruments; Lead Acid: N; SubFamily: Battery Charge Management; Vin(Min)(V): 5; DatasheetVersion: SLUS892A; PackageVersion: revG, Jul-2011; PackageReference: RGE24-2450X2450TP; PackageDescription: 24-Pin Plastic Quad Flatpack No-Lead, 4 x 4 mm Body, 0.5 mm Pitch; Supplier 1: Digi-Key; Supplier Part Number 1: 296-25611-2-ND; Supplier 2: Digi-Key; Supplier Part Number 2: 296-25611-1-ND; Supplier 3: Digi-Key; Supplier Part Number 3: 296-25611-6-ND; Supplier 4: Farnell; Supplier Part Number 4: 1815718RL; Supplier 5: Farnell; Supplier Part Number 5: 1815718; Supplier 6: Newark; Supplier Part Number 6: 60R2408; Supplier 7: Mouser; Supplier Part Number 7: 595-BQ24610RGET; Eco-Plan: Green (RoHS & no Sb/Br); Li-Ion: N; Li-Polymer: N; NiCd: N; NiMH: N; Over Voltage Protection: N; Mounting Technology: Surface Mount; Code_JEDEC: MO-220; ComponentLink1Description: Datasheet; ComponentLink1URL: http://www.ti.com/general/docs/lit/getliterature.tsp?genericPartNumber=BQ24610&fileType=pdf
footprint RGE24-2450X2450TP (QFN, 24-Leads, Body 4x4mm, Pitch 0.5mm, Thermal Pad 2.45x2.45mm, TI Recommended)
pins: 1 ACN (power) "Adapter current-sense resistor, negative input. A 0.1-uF ceramic capacitor is placed from ACN to ACP to provide differential-mode filtering. An optional 0.1-uF ceramic capacitor is placed from the ACN pin to GND for (See Datasheet)", 2 ACP (power) "Adapter current-sense resistor, positive input. A 0.1-uF ceramic capacitor is placed from ACN to ACP to provide differential-mode filtering. A 0.1-uF ceramic capacitor is placed from the ACP pin to GND for common-mode (See Datasheet)", 3 ~{ACDRV} (power) "AC adapter to system MOSFET driver output. Connect through a 1-kohm resistor to the gate of the ACFET P-channel power MOSFET and the reverse conduction blocking P-channel power MOSFET. The internal gate drive is (See Datasheet)", 4 CE (power) "Charge-enable active-HIGH logic input. HI enables charge. LO disables charge. It has an internal 1-Mohm  pulldown resistor.", 5 STAT1 (power) "Open-drain charge-status pin to indicate various charger operations (See Table 3)", 6 TS (power) "Temperature qualification voltage input for battery-pack negative-temperature-coefficient thermistor. Program the hot and cold temperature window with a resistor divider from VREF to TS to GND. (See Figure 19)", 7 TTC (power) "SafetyTimer and termination control. Connect a capacitor from this node to GND to set the timer. When this input is LOW, the timer and termination are disabled. When this input is HIGH, the timer is disabled but termination (See Datasheet)", 8 ~{PG} (power) "Open-drain power-good status output. Active-LOW when IC has a valid VCC (not in UVLO or ACOV or SLEEP mode). Active-HIGH when IC has an invalid VCC. P\G\  can be used to drive an LED or communicate with a host processor", 9 STAT2 (power) "Open-drain charge-status pin to indicate various charger operations (See Table 3)", 10 VREF (power) "3.3-V regulated voltage output. Place a 1-uF ceramic capacitor from VREF to GND pin close to the IC. This voltage could be used for programming of voltage and current regulation and for programming the TS threshold.", 11 ISET1 (power) "Fast-charge current-set input. The voltage on the ISET1 pin programs the fast-charge current-regulation set point.", 12 VFB (power) "Output-voltage analog-feedback adjustment. Connect the output of a resistive voltage divider from the battery terminals to this node to adjust the output battery-regulation voltage.", 13 SRN (power) "Charge-current sense resistor, negative input. A 0.1-uF ceramic capacitor is placed from SRN to SRP to provide differential-mode filtering. An optional 0.1-uF ceramic capacitor is placed from the SRN pin to GND for (See Datasheet)", 14 SRP (power) "Charge-current sense resistor, positive input. A 0.1-uF ceramic capacitor is placed from SRN to SRP to provide differential-mode filtering. A 0.1-uF ceramic capacitor is placed from the SRP pin to GND for common-mode (See Datasheet)", 15 ISET2 (power) "Pre-charge and termination current-set input. The voltage on the ISET2 pin programs the pre-charge current regulation set-point and termination-current trigger point.", 16 ACSET (power) "Adapter-current set input. The voltage on the ACSET pin programs the input-current regulation set-point during dynamic power management (DPM).", 17 GND (power) "Low-current sensitive analog/digital ground. On PCB layout, connect with thermal pad underneath the IC.", 18 REGN (power) "PWM low-side driver positive 6-V supply output. Connect a 1-uF ceramic capacitor from REGN to the GND pin, close to the IC. Use for low-side driver and high-side driver bootstrap voltage by connecting a small-signal Schottky (See Datasheet)", 19 LODRV (power) "PWM low-side driver output. Connect to the gate of the low-side power MOSFET with a short trace.", 20 PH (power) "PWM high-side driver negative supply. Connect to the phase-switching node (junction of the low-side power MOSFET drain, high-side power MOSFET source, and output inductor).", 21 HIDRV (power) "PWM high-side driver output. Connect to the gate of the high-side power MOSFET with a short trace.", 22 BTST (power) "PWM high-side driver positive supply. Connect to the phase-switching node (junction of the low-side power MOSFET drain, high-side power MOSFET source, and output inductor). Connect the 0.1-uF bootstrap capacitor from PH to (See Datasheet)", 23 ~{BATDRV} (power) "Battery-to-system MOSFET driver output. Gate drive for the battery-to-system load BAT PMOS power FET to isolate the system from the battery to prevent current flow from the system to the battery, while allowing a (See Datasheet)", 24 VCC (power) "IC power positive supply. Connect through a 10-ohm to the common-source (diode-OR) point: source of high-side P-channel MOSFET and source of reverse-blocking power P-channel MOSFET. Place a 1-µF ceramic capacitor from VCC to (See Datasheet)", 25 PPAD (power) "Exposed pad beneath the IC. Always solder the thermal pad to the board, and have vias on the thermal-pad plane star-connecting to GND and to the ground plane for a high-current power converter. It also serves as a thermal (See Datasheet)"

## BQ24725
designator DD?, comment BQ24725A
Name: BQ24725A
footprint S-PVQFN-N20
footprint S-PVQFN-N20
pins: 1 ACN, 2 ACP, 3 CMSRC, 4 ACDRV, 5 ACOK, 6 ACDET, 7 IOUT, 8 SDA, 9 SCL, 10 ILIM, 11 BATDRV, 12 SRN, 13 SRP, 14 GND, 15 LODRV, 16 REGN, 17 BTST, 18 HIDRV, 19 PHASE, 20 VCC, 21 POWERPAD

## BQ27510-G2
designator U?
System-Side Impedance-Track Fuel Gauge with Direct Battery Connection, -40 to 85 degC, 12-pin SON (DRZ), Green (RoHS & no Sb/Br); PartNumber: BQ27510DRZR-G2; Manufacturer: Texas Instruments; Lead Acid: N; Li-Ion: Y; SubFamily: Battery Fuel Gauge; DatasheetVersion: SLUS948; PackageVersion: revB, Apr-2006; PackageReference: DRZ12-1950X2450TP; PackageDescription: 12-Pin Plastic Small Outline No-Lead, 4 x 2.5 x 1 mm Body, 0.4 mm Pitch, Exposed Pad, Pb-Free; Supplier 1: Digi-Key; Supplier Part Number 1: 296-27728-2-ND; Supplier 2: Digi-Key; Supplier Part Number 2: 296-27728-1-ND; Supplier 3: Digi-Key; Supplier Part Number 3: 296-27728-6-ND; Supplier 4: Newark; Supplier Part Number 4: 99R9912; Supplier 5: Mouser; Supplier Part Number 5: 595-BQ27510DRZR-G2; Eco-Plan: Green (RoHS & no Sb/Br); Li-Polymer: Y; NiCd: N; NiMH: N; Over Voltage Protection: N; Mounting Technology: Surface Mount; ComponentLink1Description: Datasheet; ComponentLink1URL: http://www.ti.com/general/docs/lit/getliterature.tsp?genericPartNumber=BQ27510-G2&fileType=pdf; Name: BQ27510-G2
footprint DRZ12-1950X2450TP (SON, 12-Leads, Body 4x2.5mm, Pitch 0.4mm, Thermal Pad 1.95x2.45mm, TI Recommended)
footprint DRZ12-1950X2450TP (SON, 12-Leads, Body 4x2.5mm, Pitch 0.4mm, Thermal Pad 1.95x2.45mm, TI Recommended)
pins: 1 BI/TOUT (power) "Battery-insertion detection input. Power pin for pack thermistor network. Thermistor-multiplexer control pin. Open-drain I/O. Use with pull-up resistor >1M ohm (1.8 M ohm typical).", 2 REG25 (power) "2.5 V output voltage of the internal integrated LDO.", 3 REGIN (power) "The input voltage for the internal integrated LDO.", 4 BAT (power) "Cell voltage measurement input. ADC input.", 5 VCC (power) "Processor power input. Decouple with 0.1uF ceramic capacitor minimum.", 6 VSS (power) "Device ground", 7 SRP (power) "Analog input pin connected to the internal coulomb counter where SRP is nearest the PACK-connection. Connect to 5-M ohm  to 20-M ohm sense resistor.", 8 SRN (power) "Analog input pin connected to the internal coulomb counter where SRN is nearest the VSS-connection. Connect to a 5-M ohm to 20-M ohm sense resistor.", 9 TS (power) "Pack thermistor voltage sense (use 103AT-type thermistor). ADC input", 10 SDA (power) "Slave I2C serial communications data line for communication with system (Master). Open-drain I/O. Use with 10-K ohm pull-up resistor (typical).", 11 SCL (power) "Slave I2C serial communications clock input line for communication with system (Master). Use with 10-K ohm pull-up resistor (typical).", 12 BAT_L/GD (power) "Battery-good or Battery-low output indicator. Desired function polarity selected through the Operation Configuration register. Open-drain output", 13 PPAD (power) "Exposed pad."
text: *STU

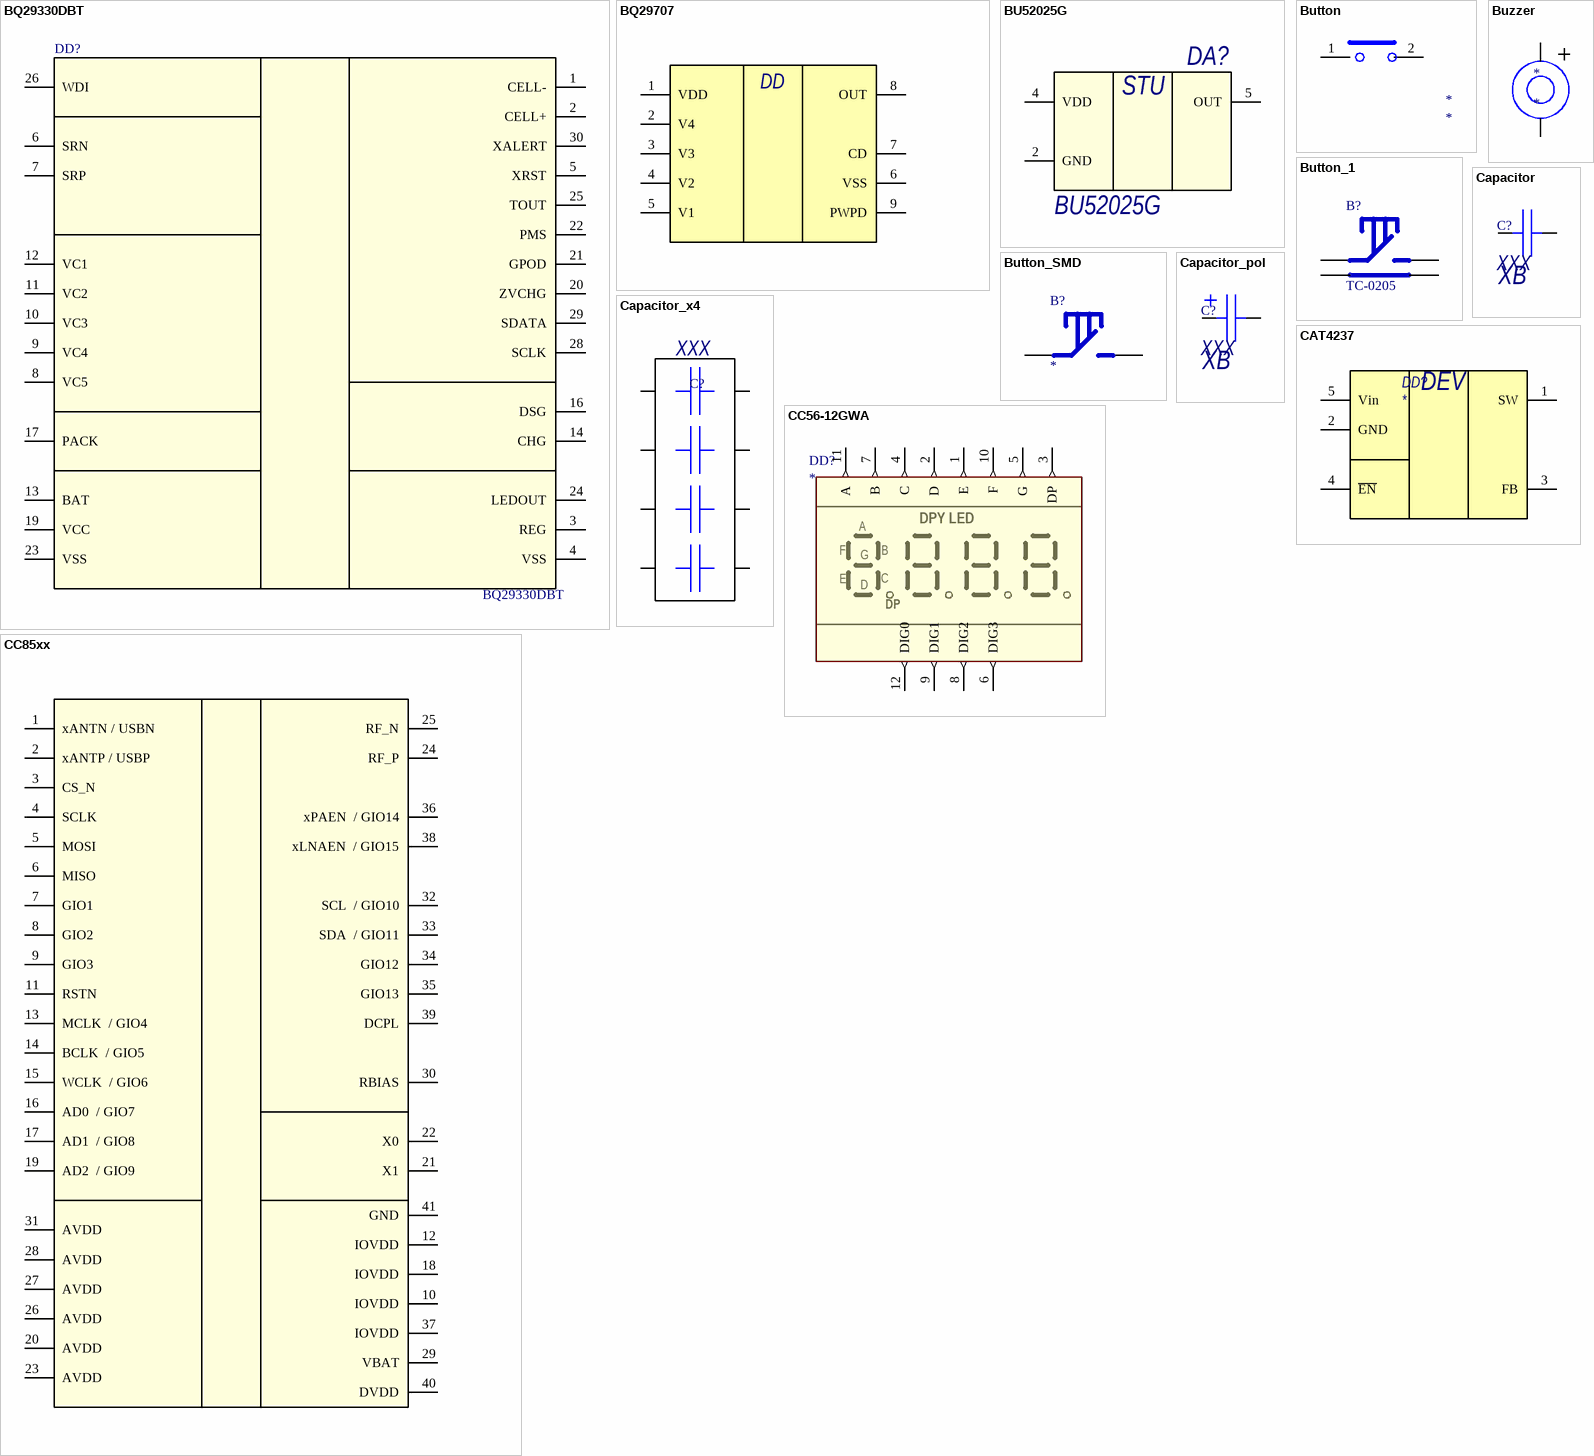
[diagram p4: symbols BQ29330DBT to CC85xx]

## BQ29330DBT
designator DD?
LITHIUM-POLYMER BATTERY PROTECTION AFE; Name: BQ29330DBT
footprint DBT30
pins: 1 CELL-, 2 CELL+, 3 REG, 4 VSS, 5 XRST, 6 SRN, 7 SRP, 8 VC5, 9 VC4, 10 VC3, 11 VC2, 12 VC1, 13 BAT, 14 CHG, 15 NC hidden, 16 DSG, 17 PACK, 18 NC hidden, 19 VCC, 20 ZVCHG, 21 GPOD, 22 PMS, 23 VSS, 24 LEDOUT, 25 TOUT, 26 WDI, 27 NC hidden, 28 SCLK, 29 SDATA, 30 XALERT

## BQ29707
designator DD?
Overvoltage Protection for 2-Series to 4-Series Cell Li-Ion Batteries  with External Delay Capacitor; PortComponent: True; Published: 2013; Publisher: Altium Limited; HelpURL: http://www.ti.com/lit/ds/symlink/bq294707.pdf
pins: 1 VDD, 2 V4, 3 V3, 4 V2, 5 V1, 6 VSS, 7 CD, 8 OUT, 9 PWPD
text: DD

## BU52025G
designator DA?
Name: BU52025G
footprint SOT23-5_A
footprint SOT23-5_H
pins: 2 GND, 4 VDD, 5 OUT
text: STU

## Button
designator *
pins: 1, 2

## Button_1
designator B?, comment TC-0205
Name: TC-0205
footprint SMD_TACT_SWITCH
footprint BUTTON_ANGLE
pins: 1, 2, 3, 4

## Button_SMD
designator B?
Name: *
footprint SMD_TACT_SWITCH
pins: 1, 2

## Buzzer
designator *
pins: 0, 1

## Capacitor
designator C?, comment XXX  Voltage: XВ
Конденсатор; Value: XXX
footprint C0805
footprint C1210
footprint C1812
footprint C2220
pins: 1, 2

## Capacitor_pol
designator C?, comment XXX  Voltage: XВ
Конденсатор поляризованный; Value: XXX
footprint CAP_C
footprint CAP_E
footprint CAP_6x20
footprint К50-81 (Конденсатор электролитический, D = 18 (мм), H = 33 (мм), стоя)
footprint К50-81 - HORIZ (Конденсатор электролитический, D = 18 (мм), H = 33 (мм), лежа)
pins: 1, 2

## Capacitor_x4
designator C?, comment XXX
Конденсатор; Value: XXX
footprint C0402_A
footprint C0402_H
footprint C0603_A
footprint C0603_H
footprint C0805_A
footprint C0805_H
footprint C1206_A
footprint C1206_H
footprint C1210_A
footprint C1210_H
footprint C1812_A
footprint C1812_H
footprint C1825_A
footprint C1825_H
footprint C2220_A
footprint C2220_H
footprint C2225_A
footprint C2225_H
footprint C0603x4
pins: 1, 2, 3, 4, 5, 6, 7, 8

## CAT4237
designator DD?
footprint SOT23-5_A
pins: 1 SW, 2 GND, 3 FB, 4 ~{EN}, 5 Vin
text: DEV

## CC56-12GWA
designator DD?
7-ми сегментный 4-х разрядный цифровой индикатор
pins: 1 E (out), 2 D (out), 3 DP (out), 4 C (out), 5 G (out), 6 DIG3 (out), 7 B (out), 8 DIG2 (out), 9 DIG1 (out), 10 F (out), 11 A (out), 12 DIG0 (out)
text: DPY LED

## CC85xx
designator DD?
2.4 GHz RF SoC FOR WIRELESS DIGITAL AUDIO STREAMING; PortComponent: True; Published: 22-Jan-2007; Publisher: Altium Limited; HelpURL: https://wiki.altium.com/display/ADOH/NanoBoard+3000+-+Audio+CODEC
footprint VQFN40
pins: 1 xANTN / USBN (power) "Ground (0V)", 2 xANTP / USBP (power) "USB power connection", 3 CS_N (power) "Power supply (+3.3V DC) for de-coupling purposes", 4 SCLK (power) "Antenna connection 1", 5 MOSI (power) "Antenna connection 1", 6 MISO (power) "Reset for microcontroller, active low", 7 GIO1 (power) "Ground (0V)", 8 GIO2 (power) "Ground (0V)", 9 GIO3 (power) "Power supply (+3.3V DC) for de-coupling purposes", 10 IOVDD (power) "Ground (0V)", 11 RSTN (power) "USB data +", 12 IOVDD (power) "USB data -", 13 MCLK  / GIO4 (power) "Power supply (+3.3V DC) for de-coupling purposes", 14 BCLK  / GIO5 (power) "Power supply (+3.3V DC) for de-coupling purposes", 15 WCLK  / GIO6 (power) "Power supply (+3.3V DC) for de-coupling purposes", 16 AD0  / GIO7 (power) "Reference current", 17 AD1  / GIO8 (power) "Positive Digital Supply output for de-coupling purposes", 18 IOVDD (power) "Reserved for programming the flash", 19 AD2  / GIO9 (power) "Antenna connection 2", 20 AVDD (power) "Power supply (+3.3V DC) for de-coupling purposes", 21 X1 (power) "Ground (0V)", 22 X0 (power) "Power Supply (+1.8V) to Power Amplifier", 23 AVDD (power) "General purpose data Port 0, bit 0", 24 RF_P (power) "General purpose data Port 0, bit 1", 25 RF_N (power) "General purpose data Port 0, bit 2", 26 AVDD (power) "General purpose data Port 0, bit 3", 27 AVDD (power) "General purpose data Port 0, bit 4", 28 AVDD (power) "General purpose data Port 0, bit 5", 29 VBAT (power) "Positive Digital Supply output for de-coupling purposes", 30 RBIAS (power) "GND", 31 AVDD (power) "GND", 32 SCL  / GIO10 (power) "GND", 33 SDA  / GIO11 (power) "GND", 34 GIO12 (power) "GND", 35 GIO13 (power) "GND", 36 xPAEN  / GIO14 (power) "GND", 37 IOVDD (power) "GND", 38 xLNAEN  / GIO15 (power) "GND", 39 DCPL (power) "GND", 40 DVDD (power) "GND", 41 GND (power)

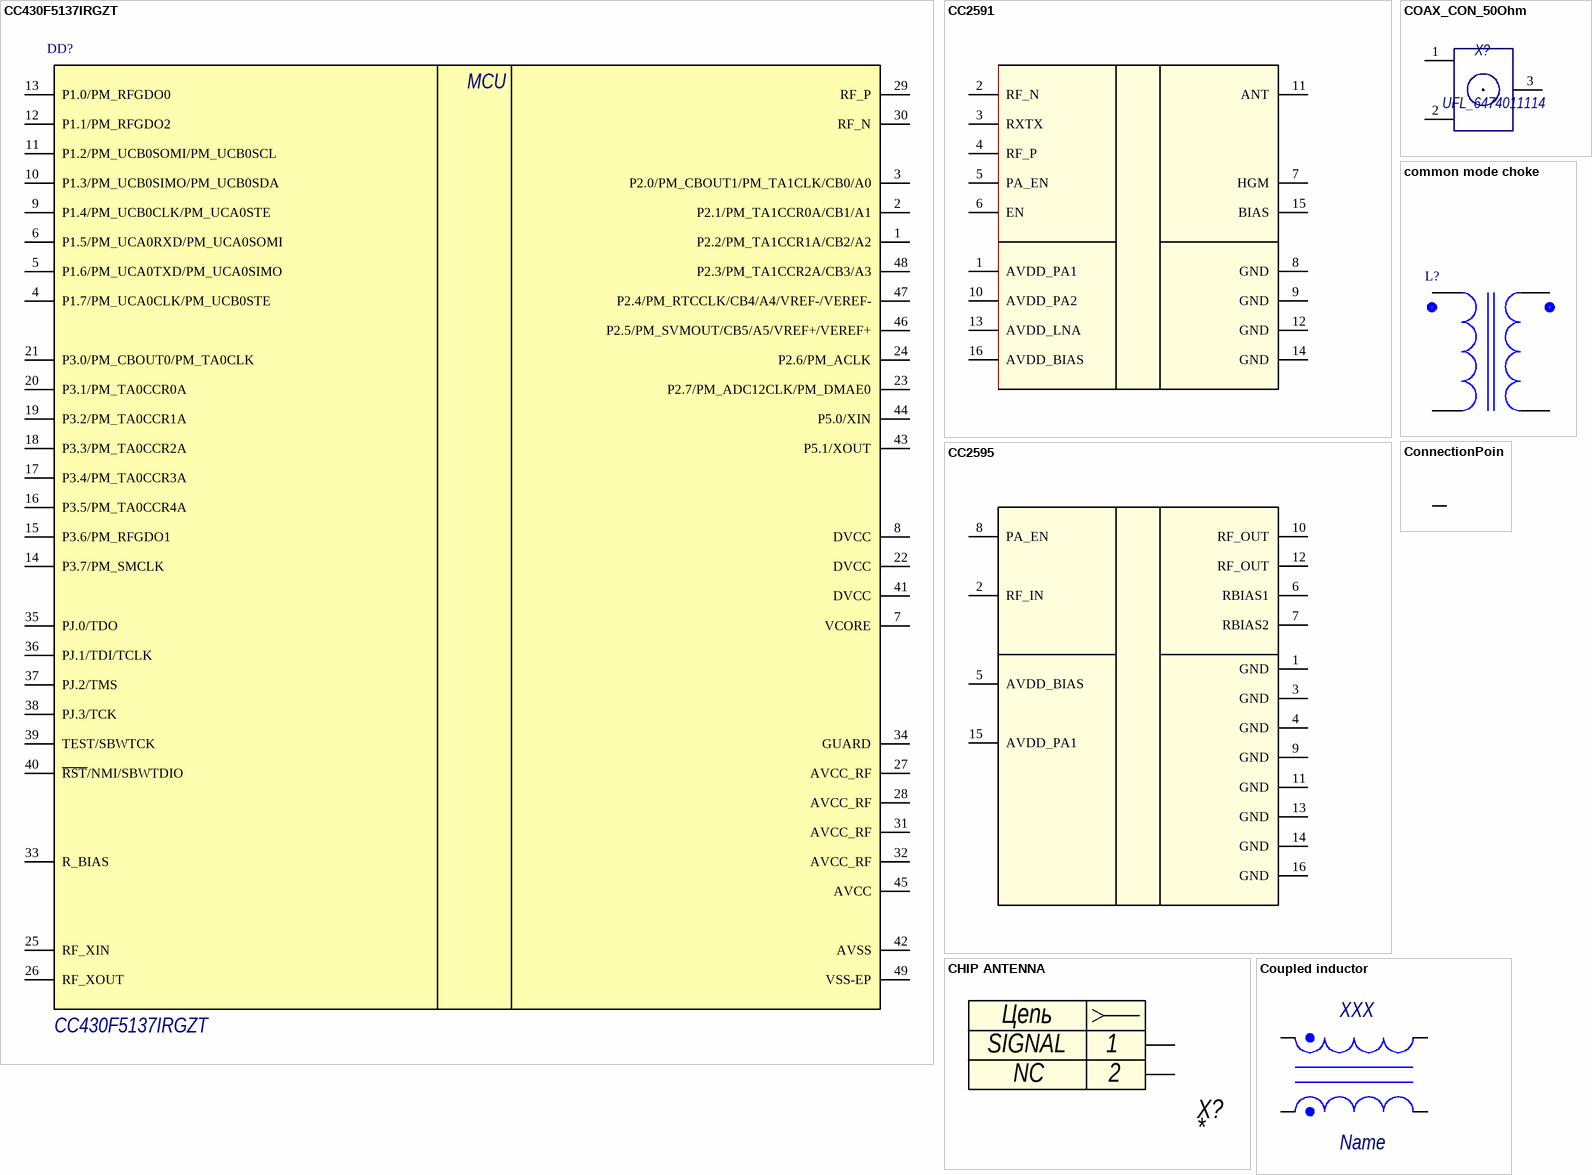
[diagram p5: symbols CC430F5137IRGZT to Coupled inductor]

## CC430F5137IRGZT
designator DD?
20 MHz MSP430 SoC with RF Core with 32 KB Flash, 4096 B SRAM and 30 GPIOs, -40 to 85 degC, 48-pin QFN (RGZ), Green (RoHS & no Sb/Br); Manufacturer: Texas Instruments; ADC: Yes; ADC Channels: 6; DMA: 3; Flash(KB): 32; Frequency(MHz): 20; GPIO: 30; Multiplier: 32x32; SRAM(B): 4096; SubFamily: RF SoC Series; Timers - 16-bit: 2; USCI_A (UART/LIN/IrDA/SPI): 1; DatasheetVersion: SLAS554F; PackageVersion: 4204101/F; PackageReference: RGZ48-4100X4100TP; PackageDescription: 48-Pin Plastic Flat Pack, Body 7 x 7 mm, Pitch 0.5 mm; Supplier 1: Digi-Key; Supplier Part Number 1: CC430F5137IRGZT-ND; Supplier 2: Newark; Supplier Part Number 2: 74R6087; Supplier 3: Mouser; Supplier Part Number 3: 595-CC430F5137IRGZT; Brown Out Reset: Yes; Comparators: Yes; Eco-Plan: Green (RoHS & no Sb/Br); Real-Time Clock: Yes; SVS: Yes; Temp Sensor: Yes; USCI_B (I2C & SPI): 1; Watchdog: Yes; Mounting Technology: Surface Mount; Code_JEDEC: MO-220; ComponentLink1Description: Manufacturer URL; ComponentLink1URL: http://www.ti.com/; ComponentLink2Description: Datasheet; ComponentLink2URL: http://www.ti.com/general/docs/lit/getliterature.tsp?genericPartNumber=CC430F5137&fileType=pdf; ComponentLink3Description: Package Specification; ComponentLink3URL: http://www.ti.com/lit/ds/symlink/sn75dp139.pdf; PartNumber: CC430F5137IRGZT
footprint TI-RGZ48-4100X4100TP_N (QFN, 48-Leads, Body 7x7mm, Pitch 0.5mm, Thermal Pad 4.1x4.1mm, IPC Medium Density)
pins: 1 P2.2/PM_TA1CCR1A/CB2/A2 (power), 2 P2.1/PM_TA1CCR0A/CB1/A1 (power), 3 P2.0/PM_CBOUT1/PM_TA1CLK/CB0/A0 (power), 4 P1.7/PM_UCA0CLK/PM_UCB0STE (power), 5 P1.6/PM_UCA0TXD/PM_UCA0SIMO (power), 6 P1.5/PM_UCA0RXD/PM_UCA0SOMI (power), 7 VCORE (power) "Regulated core power supply", 8 DVCC (power) "Digital power supply", 9 P1.4/PM_UCB0CLK/PM_UCA0STE (power), 10 P1.3/PM_UCB0SIMO/PM_UCB0SDA (power), 11 P1.2/PM_UCB0SOMI/PM_UCB0SCL (power), 12 P1.1/PM_RFGDO2 (power), 13 P1.0/PM_RFGDO0 (power), 14 P3.7/PM_SMCLK (power), 15 P3.6/PM_RFGDO1 (power), 16 P3.5/PM_TA0CCR4A (power), 17 P3.4/PM_TA0CCR3A (power), 18 P3.3/PM_TA0CCR2A (power), 19 P3.2/PM_TA0CCR1A (power), 20 P3.1/PM_TA0CCR0A (power), 21 P3.0/PM_CBOUT0/PM_TA0CLK (power), 22 DVCC (power) "Digital power supply", 23 P2.7/PM_ADC12CLK/PM_DMAE0 (power), 24 P2.6/PM_ACLK (power), 25 RF_XIN (power) "Input terminal for RF crystal oscillator, or external clock input", 26 RF_XOUT (power) "Output terminal for RF crystal oscillator", 27 AVCC_RF (power) "Radio analog power supply", 28 AVCC_RF (power) "Radio analog power supply", 29 RF_P (power) "Positive RF input to LNA in receive mode Positive RF output from PA in transmit mode", 30 RF_N (power) "Negative RF input to LNA in receive mode Negative RF output from PA in transmit mode", 31 AVCC_RF (power) "Radio analog power supply", 32 AVCC_RF (power) "Radio analog power supply", 33 R_BIAS (power) "External bias resistor for radio reference current", 34 GUARD (power) "Power supply connection for digital noise isolation", 35 PJ.0/TDO (power), 36 PJ.1/TDI/TCLK (power), 37 PJ.2/TMS (power), 38 PJ.3/TCK (power), 39 TEST/SBWTCK (power), 40 ~{RST}/NMI/SBWTDIO (power), 41 DVCC (power) "Digital power supply", 42 AVSS (power) "Analog ground supply for ADC12", 43 P5.1/XOUT (power), 44 P5.0/XIN (power), 45 AVCC (power) "Analog power supply", 46 P2.5/PM_SVMOUT/CB5/A5/VREF+/VEREF+ (power), 47 P2.4/PM_RTCCLK/CB4/A4/VREF-/VEREF- (power), 48 P2.3/PM_TA1CCR2A/CB3/A3 (power), 49 VSS-EP (power) "Ground supply The exposed die attach pad must be connected to a solid ground plane as this is the ground connection for the chip."
text: MCU

## CC2591
designator DD?
Audio Codec Control; PortComponent: True; Published: 22-Jan-2007; Publisher: Altium Limited; HelpURL: https://wiki.altium.com/display/ADOH/NanoBoard+3000+-+Audio+CODEC
footprint VQFN16
pins: 1 AVDD_PA1 (power) "Ground (0V)", 2 RF_N (power) "USB power connection", 3 RXTX (power) "Power supply (+3.3V DC) for de-coupling purposes", 4 RF_P (power) "Antenna connection 1", 5 PA_EN (power) "Antenna connection 1", 6 EN (power) "Reset for microcontroller, active low", 7 HGM (power) "Ground (0V)", 8 GND (power) "Ground (0V)", 9 GND (power) "Power supply (+3.3V DC) for de-coupling purposes", 10 AVDD_PA2 (power) "Ground (0V)", 11 ANT (power) "USB data +", 12 GND (power) "USB data -", 13 AVDD_LNA (power) "Power supply (+3.3V DC) for de-coupling purposes", 14 GND (power) "Power supply (+3.3V DC) for de-coupling purposes", 15 BIAS (power) "Power supply (+3.3V DC) for de-coupling purposes", 16 AVDD_BIAS (power) "Reference current"

## CC2595
designator DA?
2.4-GHz RF FRONT END; PortComponent: True; Published: 22-Jan-2007; Publisher: Altium Limited; HelpURL: https://wiki.altium.com/display/ADOH/NanoBoard+3000+-+Audio+CODEC
pins: 1 GND (power) "Ground (0V)", 2 RF_IN (power) "USB power connection", 3 GND (power) "Power supply (+3.3V DC) for de-coupling purposes", 4 GND (power) "Antenna connection 1", 5 AVDD_BIAS (power) "Antenna connection 1", 6 RBIAS1 (power) "Reset for microcontroller, active low", 7 RBIAS2 (power) "Ground (0V)", 8 PA_EN (power) "Ground (0V)", 9 GND (power) "Power supply (+3.3V DC) for de-coupling purposes", 10 RF_OUT (power) "Ground (0V)", 11 GND (power) "USB data +", 12 RF_OUT (power) "USB data -", 13 GND (power) "Power supply (+3.3V DC) for de-coupling purposes", 14 GND (power) "Power supply (+3.3V DC) for de-coupling purposes", 15 AVDD_PA1 (power) "Power supply (+3.3V DC) for de-coupling purposes", 16 GND (power) "Reference current"

## CHIP ANTENNA
designator X?
footprint FPRT 2.4
pins: 1, 2
text: Цепь; SIGNAL; NC

## COAX_CON_50Ohm
designator X?, comment UFL_6474011114
ComponentLink1Description: Datasheet; ComponentLink1URL: http://www.hirose.co.jp/cataloge_hp/e32119372.pdf; Package: 3 x 3 mm
footprint UFL
pins: 1 GND, 2 GND, 3 SIG

## common mode choke
designator L?, comment XXX  (value not drawn)
Синфазный дроссель; Value: XXX
footprint SRF0703
pins: 1, 2, 3, 4

## ConnectionPoin
designator ?  (net tie, no BOM)
ConnectionPoin
footprint ConnectionPoint
pins: 1, 2

## Coupled inductor
designator L?, comment XXX
Name: Name; Value: XXX
footprint MSD1260
pins: 1, 2, 3, 4

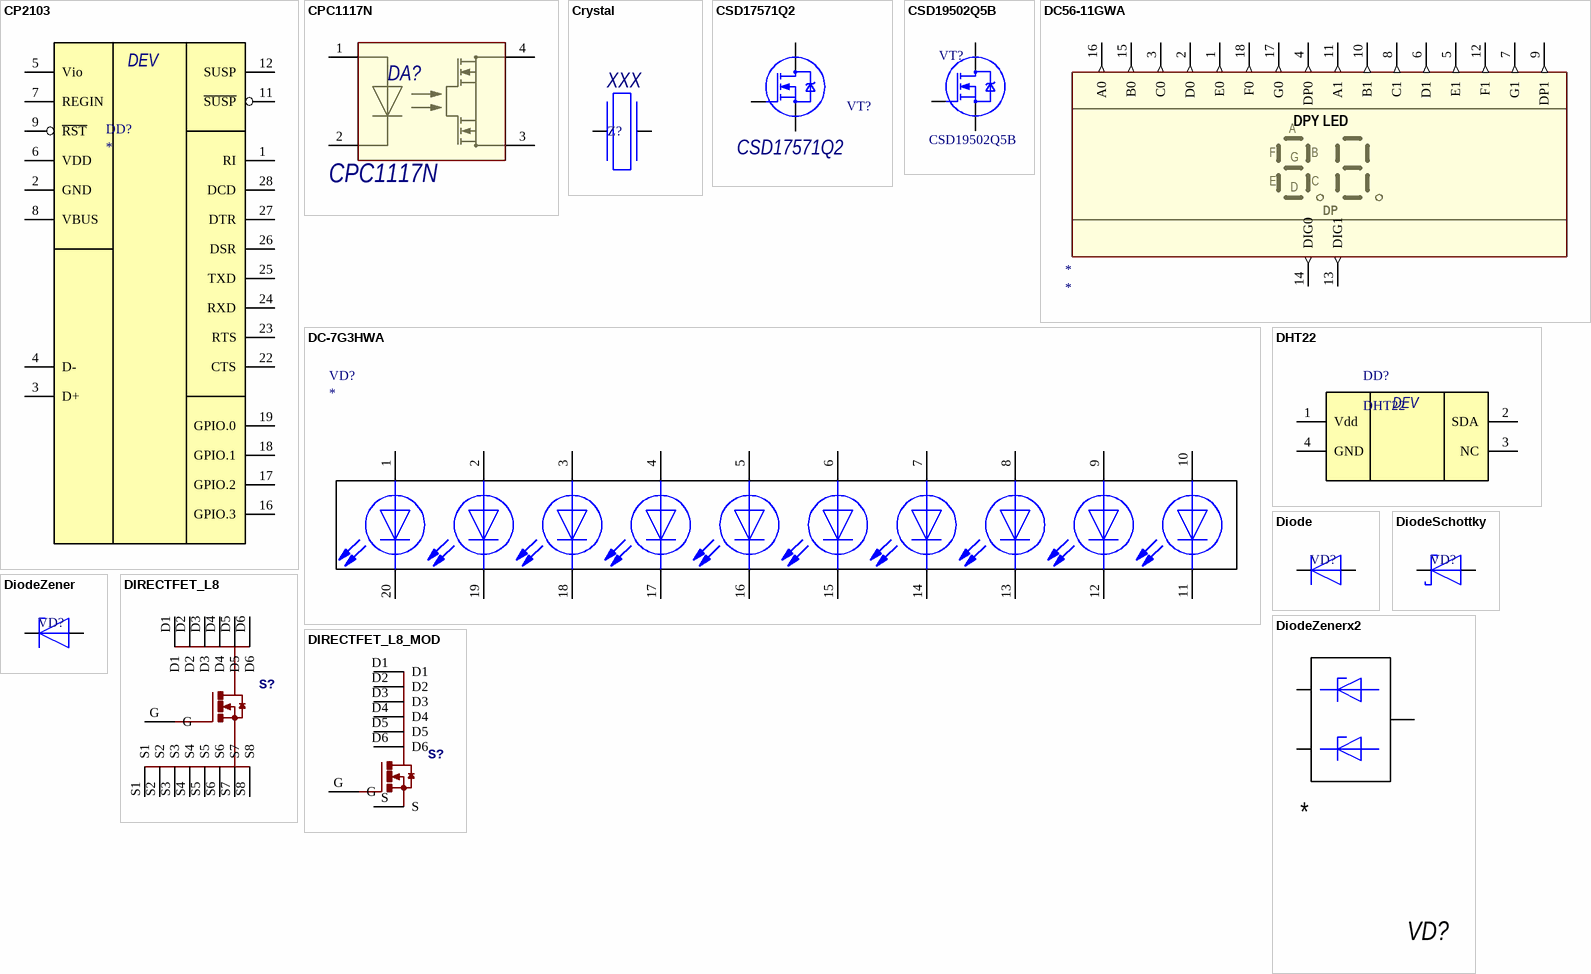
[diagram p6: symbols CP2103 to DIRECTFET_L8_MOD]

## CP2103
designator DD?
Преобразователь интерфейсов USB-UART
footprint CP2103 (QFN, 28-Leads, Body 5,0x5,0mm (max), Pitch 0,50mm, IPC Medium Density)
pins: 1 RI, 2 GND, 3 D+, 4 D-, 5 Vio, 6 VDD, 7 REGIN, 8 VBUS, 9 ~{RST}, 11 ~{SUSP}, 12 SUSP, 16 GPIO.3, 17 GPIO.2, 18 GPIO.1, 19 GPIO.0, 22 CTS, 23 RTS, 24 RXD, 25 TXD, 26 DSR, 27 DTR, 28 DCD
text: DEV

## CPC1117N
designator DA?
Value: Value; Name: CPC1117N
footprint SOP4
pins: 1, 2, 3, 4

## Crystal
designator Z?, comment XXX
Кварцевый резонатор; Value: XXX
footprint QSMD3.2x2.5_A
footprint QSMD3.2x2.5_H
pins: 1, 2

## CSD17571Q2
designator VT?
Name: CSD17571Q2
footprint WSON-FET 6
pins: D, G, S

## CSD19502Q5B
designator VT?
Power MOSFET; Name: CSD19502Q5B
footprint PSON_8_TI
pins: D, G, S

## DC56-11GWA
designator *
pins: 1 E0 (out), 2 D0 (out), 3 C0 (out), 4 DP0 (out), 5 E1 (out), 6 D1 (out), 7 G1 (out), 8 C1 (out), 9 DP1 (out), 10 B1 (out), 11 A1 (out), 12 F1 (out), 13 DIG1 (out), 14 DIG0 (out), 15 B0 (out), 16 A0 (out), 17 G0 (out), 18 F0 (out)
text: DPY LED; A; F; B; G; E; C; D; DP

## DC-7G3HWA
designator VD?
Шкала светодиодная 3 красных + 7 зеленых
pins: 1 A, 2 A, 3 A, 4 A, 5 A, 6 A, 7 A, 8 A, 9 A, 10 A, 11 K, 12 K, 13 K, 14 K, 15 K, 16 K, 17 K, 18 K, 19 K, 20 K

## DHT22
designator DD?
Name: DHT22
pins: 1 Vdd, 2 SDA, 3 NC, 4 GND
text: DEV

## Diode
designator VD?
Диод
footprint SOD523_A
footprint SOD523_H
pins: 1 K, 2 A

## DiodeSchottky
designator VD?
Диод Шоттки
footprint SOD123_A
footprint SOD123_H
footprint SMA_A
footprint SMA_H
footprint SOD523_A
footprint SOD523_H
pins: 1 K, 2 A

## DiodeZener
designator VD?
Стабилитрон
footprint SMA_A
footprint SMA_H
footprint SOD523_A
footprint SOD523_H
footprint SOT23-2_A
footprint SOT23-2_H
pins: 1 K, 2 A

## DiodeZenerx2
designator VD?
Name: *
footprint SOT23-3_H
footprint SOT23-3_A
pins: 1, 2, 3

## DIRECTFET_L8
designator S?
footprint DIRECTFET_L8
pins: D1, D2, D3, D4, D5, D6, G, S1, S2, S3, S4, S5, S6, S7, S8

## DIRECTFET_L8_MOD
designator S?
footprint DIRECTFET_L8_MOD
pins: D1, D2, D3, D4, D5, D6, G, S

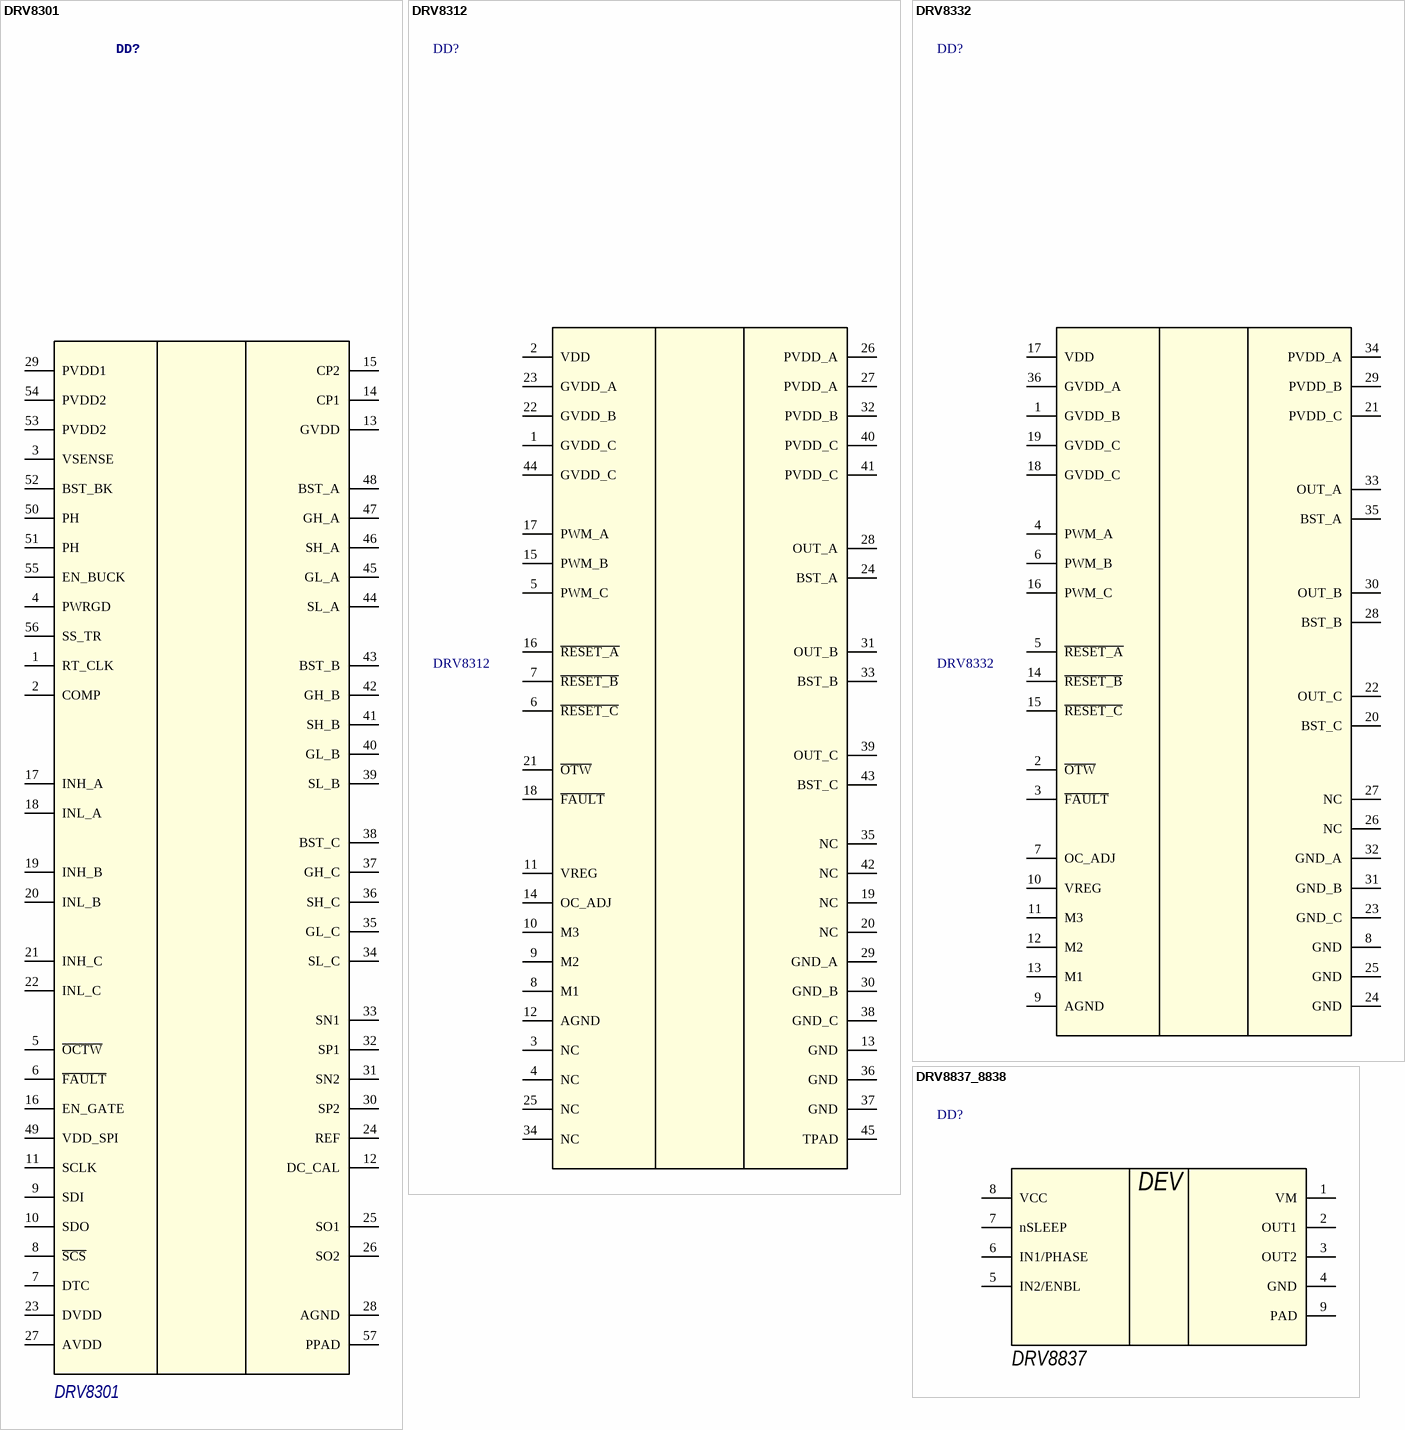
[diagram p7: symbols DRV8301 to DRV8837_8838]

## DRV8301
designator DD?
3 Phase Integrated Motor Gate Driver by Texas Instruments; Name: DRV8301
footprint TSSOP56P
pins: 1 RT_CLK (power), 2 COMP (power), 3 VSENSE (power), 4 PWRGD (power), 5 ~{OCTW} (power), 6 ~{FAULT} (power), 7 DTC (power), 8 ~{SCS} (power), 9 SDI (power), 10 SDO (power), 11 SCLK (power), 12 DC_CAL (power), 13 GVDD (power), 14 CP1 (power), 15 CP2 (power), 16 EN_GATE (power), 17 INH_A (power), 18 INL_A (power), 19 INH_B (power), 20 INL_B (power), 21 INH_C (power), 22 INL_C (power), 23 DVDD (power), 24 REF (power), 25 SO1 (power), 26 SO2 (power), 27 AVDD (power), 28 AGND (power), 29 PVDD1 (power), 30 SP2 (power), 31 SN2 (power), 32 SP1 (power), 33 SN1 (power), 34 SL_C (power), 35 GL_C (power), 36 SH_C (power), 37 GH_C (power), 38 BST_C (power), 39 SL_B (power), 40 GL_B (power), 41 SH_B (power), 42 GH_B (power), 43 BST_B (power), 44 SL_A (power), 45 GL_A (power), 46 SH_A (power), 47 GH_A (power), 48 BST_A (power), 49 VDD_SPI (power), 50 PH (power), 51 PH (power), 52 BST_BK (power), 53 PVDD2 (power), 54 PVDD2 (power), 55 EN_BUCK (power), 56 SS_TR (power), 57 PPAD (power)